# Altium schematic symbol library Freescale Microcontroller 32-Bit ARM.SchLib: 64 symbols (part 6 of 7)
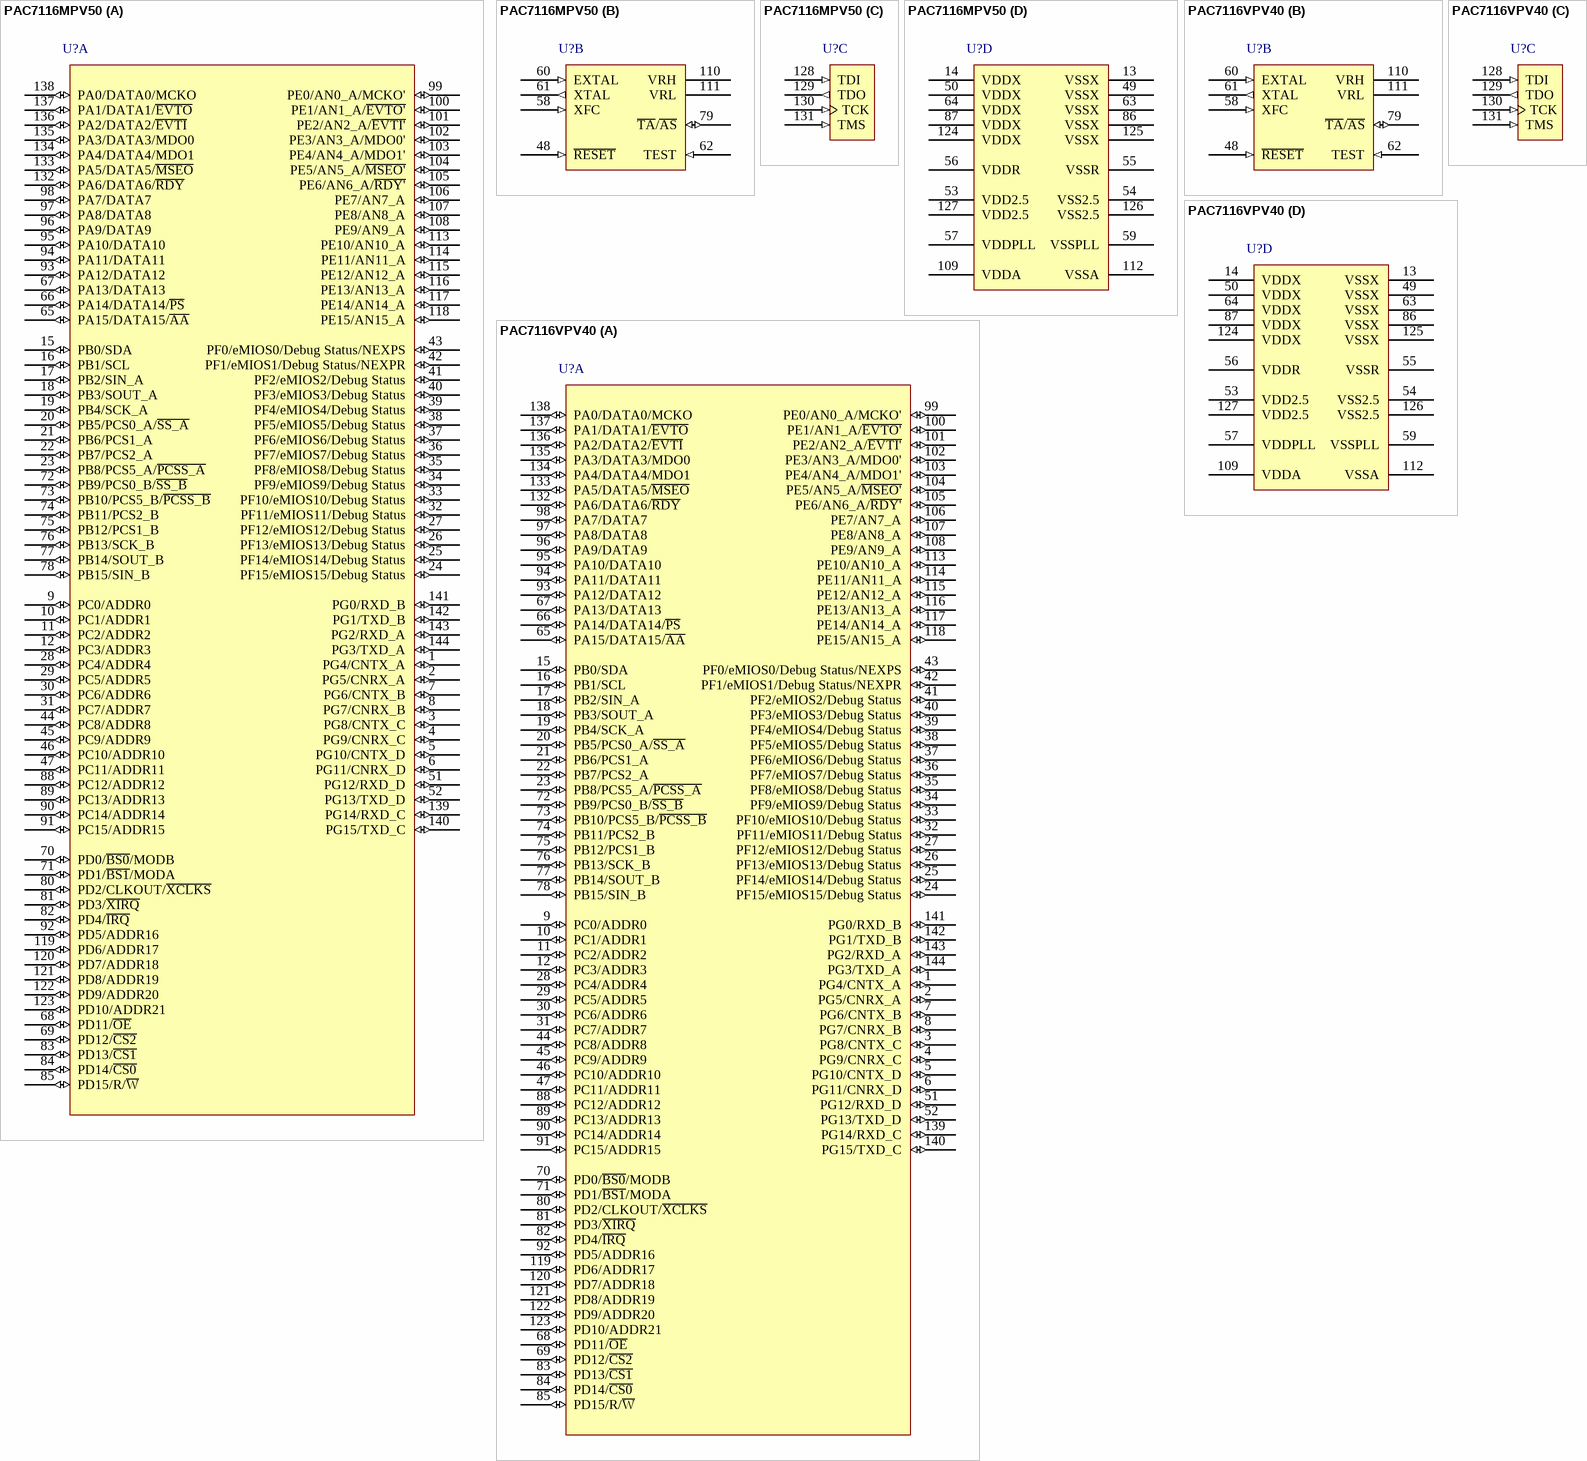
[diagram p43: symbols PAC7116MPV50 to PAC7116VPV40]

## PAC7116MPV50
designator U?
32-Bit ARM7TDMI-S RISC Core, 1MB Program Flash EEPROM, 48KB RAM, 144-Pin LQFP; FunctionAvailability: AS & PD2 functions and Debug Status port not available on mask set L49P devices.; Published: 16-Oct-2006; DatasheetVersion: rev1.2, Feb-2006; PackageVersion: revF, May-2005; PackageReference: 918-03; Publisher: Altium Limited; PackageDescription: 144-Pin Low Profile Quad Flat Pack 0.5 mm Pitch (918-03); ComponentLink1Description: Manufacturer Link; ComponentLink1URL: http://www.freescale.com/webapp/sps/site/taxonomy.jsp?nodeId=0162468rH311432451; ComponentLink2Description: Datasheet; ComponentLink2URL: http://www.freescale.com/files/32bit/doc/data_sheet/MAC7100EC.pdf; ComponentLink3Description: Packaging Specification; ComponentLink3URL: http://www.freescale.com/files/shared/doc/package_info/98ASS23177W.pdf
footprint 918-03_N (Thin QFP, 144-Leads, Body 20x20mm, Pitch 0.5mm, IPC Medium Density)
footprint 918-03_L (Thin QFP, 144-Leads, Body 20x20mm, Pitch 0.5mm, IPC High Density)
footprint 918-03_M (Thin QFP, 144-Leads, Body 20x20mm, Pitch 0.5mm, IPC Low Density)
part A pins: 1 PG4/CNTX_A (io), 2 PG5/CNRX_A (io), 3 PG8/CNTX_C (io), 4 PG9/CNRX_C (io), 5 PG10/CNTX_D (io), 6 PG11/CNRX_D (io), 7 PG6/CNTX_B (io), 8 PG7/CNRX_B (io), 9 PC0/ADDR0 (io), 10 PC1/ADDR1 (io), 11 PC2/ADDR2 (io), 12 PC3/ADDR3 (io), 15 PB0/SDA (io), 16 PB1/SCL (io), 17 PB2/SIN_A (io), 18 PB3/SOUT_A (io), 19 PB4/SCK_A (io), 20 PB5/PCS0_A/~{SS_A} (io), 21 PB6/PCS1_A (io), 22 PB7/PCS2_A (io), 23 PB8/PCS5_A/~{PCSS_A} (io), 24 PF15/eMIOS15/Debug Status (io), 25 PF14/eMIOS14/Debug Status (io), 26 PF13/eMIOS13/Debug Status (io), 27 PF12/eMIOS12/Debug Status (io), 28 PC4/ADDR4 (io), 29 PC5/ADDR5 (io), 30 PC6/ADDR6 (io), 31 PC7/ADDR7 (io), 32 PF11/eMIOS11/Debug Status (io), 33 PF10/eMIOS10/Debug Status (io), 34 PF9/eMIOS9/Debug Status (io), 35 PF8/eMIOS8/Debug Status (io), 36 PF7/eMIOS7/Debug Status (io), 37 PF6/eMIOS6/Debug Status (io), 38 PF5/eMIOS5/Debug Status (io), 39 PF4/eMIOS4/Debug Status (io), 40 PF3/eMIOS3/Debug Status (io), 41 PF2/eMIOS2/Debug Status (io), 42 PF1/eMIOS1/Debug Status/NEXPR (io), 43 PF0/eMIOS0/Debug Status/NEXPS (io), 44 PC8/ADDR8 (io), 45 PC9/ADDR9 (io), 46 PC10/ADDR10 (io), 47 PC11/ADDR11 (io), 51 PG12/RXD_D (io), 52 PG13/TXD_D (io), 65 PA15/DATA15/~{AA} (io), 66 PA14/DATA14/~{PS} (io), 67 PA13/DATA13 (io), 68 PD11/~{OE} (io), 69 PD12/~{CS2} (io), 70 PD0/~{BS0}/MODB (io), 71 PD1/~{BS1}/MODA (io), 72 PB9/PCS0_B/~{SS_B} (io), 73 PB10/PCS5_B/~{PCSS_B} (io), 74 PB11/PCS2_B (io), 75 PB12/PCS1_B (io), 76 PB13/SCK_B (io), 77 PB14/SOUT_B (io), 78 PB15/SIN_B (io), 80 PD2/CLKOUT/~{XCLKS} (io), 81 PD3/~{XIRQ} (io), 82 PD4/~{IRQ} (io), 83 PD13/~{CS1} (io), 84 PD14/~{CS0} (io), 85 PD15/R/~{W} (io), 88 PC12/ADDR12 (io), 89 PC13/ADDR13 (io), 90 PC14/ADDR14 (io), 91 PC15/ADDR15 (io), 92 PD5/ADDR16 (io), 93 PA12/DATA12 (io), 94 PA11/DATA11 (io), 95 PA10/DATA10 (io), 96 PA9/DATA9 (io), 97 PA8/DATA8 (io), 98 PA7/DATA7 (io), 99 PE0/AN0_A/MCKO' (io), 100 PE1/AN1_A/~{EVTO'} (io), 101 PE2/AN2_A/~{EVTI'} (io), 102 PE3/AN3_A/MDO0' (io), 103 PE4/AN4_A/MDO1' (io), 104 PE5/AN5_A/~{MSEO'} (io), 105 PE6/AN6_A/~{RDY'} (io), 106 PE7/AN7_A (io), 107 PE8/AN8_A (io), 108 PE9/AN9_A (io), 113 PE10/AN10_A (io), 114 PE11/AN11_A (io), 115 PE12/AN12_A (io), 116 PE13/AN13_A (io), 117 PE14/AN14_A (io), 118 PE15/AN15_A (io), 119 PD6/ADDR17 (io), 120 PD7/ADDR18 (io), 121 PD8/ADDR19 (io), 122 PD9/ADDR20 (io), 123 PD10/ADDR21 (io), 132 PA6/DATA6/~{RDY} (io), 133 PA5/DATA5/~{MSEO} (io), 134 PA4/DATA4/MDO1 (io), 135 PA3/DATA3/MDO0 (io), 136 PA2/DATA2/~{EVTI} (io), 137 PA1/DATA1/~{EVTO} (io), 138 PA0/DATA0/MCKO (io), 139 PG14/RXD_C (io), 140 PG15/TXD_C (io), 141 PG0/RXD_B (io), 142 PG1/TXD_B (io), 143 PG2/RXD_A (io), 144 PG3/TXD_A (io)
part B pins: 48 ~{RESET} (in), 58 XFC (in), 60 EXTAL (in), 61 XTAL (out), 62 TEST (in), 79 ~{TA}/~{AS} (io), 110 VRH (power), 111 VRL (power)
part C pins: 128 TDI (in), 129 TDO (out), 130 TCK (in), 131 TMS (in)
part D pins: 13 VSSX (power), 14 VDDX (power), 49 VSSX (power), 50 VDDX (power), 53 VDD2.5 (power), 54 VSS2.5 (power), 55 VSSR (power), 56 VDDR (power), 57 VDDPLL (power), 59 VSSPLL (power), 63 VSSX (power), 64 VDDX (power), 86 VSSX (power), 87 VDDX (power), 109 VDDA (power), 112 VSSA (power), 124 VDDX (power), 125 VSSX (power), 126 VSS2.5 (power), 127 VDD2.5 (power)

## PAC7116VPV40
designator U?
32-Bit ARM7TDMI-S RISC Core, 1MB Program Flash EEPROM, 48KB RAM, 144-Pin LQFP; FunctionAvailability: AS & PD2 functions and Debug Status port not available on mask set L49P devices.; Published: 16-Oct-2006; DatasheetVersion: rev1.2, Feb-2006; PackageVersion: revF, May-2005; PackageReference: 918-03; Publisher: Altium Limited; PackageDescription: 144-Pin Low Profile Quad Flat Pack 0.5 mm Pitch (918-03); ComponentLink1Description: Manufacturer Link; ComponentLink1URL: http://www.freescale.com/webapp/sps/site/taxonomy.jsp?nodeId=0162468rH311432451; ComponentLink2Description: Datasheet; ComponentLink2URL: http://www.freescale.com/files/32bit/doc/data_sheet/MAC7100EC.pdf; ComponentLink3Description: Packaging Specification; ComponentLink3URL: http://www.freescale.com/files/shared/doc/package_info/98ASS23177W.pdf
footprint 918-03_N (Thin QFP, 144-Leads, Body 20x20mm, Pitch 0.5mm, IPC Medium Density)
footprint 918-03_L (Thin QFP, 144-Leads, Body 20x20mm, Pitch 0.5mm, IPC High Density)
footprint 918-03_M (Thin QFP, 144-Leads, Body 20x20mm, Pitch 0.5mm, IPC Low Density)
part A pins: 1 PG4/CNTX_A (io), 2 PG5/CNRX_A (io), 3 PG8/CNTX_C (io), 4 PG9/CNRX_C (io), 5 PG10/CNTX_D (io), 6 PG11/CNRX_D (io), 7 PG6/CNTX_B (io), 8 PG7/CNRX_B (io), 9 PC0/ADDR0 (io), 10 PC1/ADDR1 (io), 11 PC2/ADDR2 (io), 12 PC3/ADDR3 (io), 15 PB0/SDA (io), 16 PB1/SCL (io), 17 PB2/SIN_A (io), 18 PB3/SOUT_A (io), 19 PB4/SCK_A (io), 20 PB5/PCS0_A/~{SS_A} (io), 21 PB6/PCS1_A (io), 22 PB7/PCS2_A (io), 23 PB8/PCS5_A/~{PCSS_A} (io), 24 PF15/eMIOS15/Debug Status (io), 25 PF14/eMIOS14/Debug Status (io), 26 PF13/eMIOS13/Debug Status (io), 27 PF12/eMIOS12/Debug Status (io), 28 PC4/ADDR4 (io), 29 PC5/ADDR5 (io), 30 PC6/ADDR6 (io), 31 PC7/ADDR7 (io), 32 PF11/eMIOS11/Debug Status (io), 33 PF10/eMIOS10/Debug Status (io), 34 PF9/eMIOS9/Debug Status (io), 35 PF8/eMIOS8/Debug Status (io), 36 PF7/eMIOS7/Debug Status (io), 37 PF6/eMIOS6/Debug Status (io), 38 PF5/eMIOS5/Debug Status (io), 39 PF4/eMIOS4/Debug Status (io), 40 PF3/eMIOS3/Debug Status (io), 41 PF2/eMIOS2/Debug Status (io), 42 PF1/eMIOS1/Debug Status/NEXPR (io), 43 PF0/eMIOS0/Debug Status/NEXPS (io), 44 PC8/ADDR8 (io), 45 PC9/ADDR9 (io), 46 PC10/ADDR10 (io), 47 PC11/ADDR11 (io), 51 PG12/RXD_D (io), 52 PG13/TXD_D (io), 65 PA15/DATA15/~{AA} (io), 66 PA14/DATA14/~{PS} (io), 67 PA13/DATA13 (io), 68 PD11/~{OE} (io), 69 PD12/~{CS2} (io), 70 PD0/~{BS0}/MODB (io), 71 PD1/~{BS1}/MODA (io), 72 PB9/PCS0_B/~{SS_B} (io), 73 PB10/PCS5_B/~{PCSS_B} (io), 74 PB11/PCS2_B (io), 75 PB12/PCS1_B (io), 76 PB13/SCK_B (io), 77 PB14/SOUT_B (io), 78 PB15/SIN_B (io), 80 PD2/CLKOUT/~{XCLKS} (io), 81 PD3/~{XIRQ} (io), 82 PD4/~{IRQ} (io), 83 PD13/~{CS1} (io), 84 PD14/~{CS0} (io), 85 PD15/R/~{W} (io), 88 PC12/ADDR12 (io), 89 PC13/ADDR13 (io), 90 PC14/ADDR14 (io), 91 PC15/ADDR15 (io), 92 PD5/ADDR16 (io), 93 PA12/DATA12 (io), 94 PA11/DATA11 (io), 95 PA10/DATA10 (io), 96 PA9/DATA9 (io), 97 PA8/DATA8 (io), 98 PA7/DATA7 (io), 99 PE0/AN0_A/MCKO' (io), 100 PE1/AN1_A/~{EVTO'} (io), 101 PE2/AN2_A/~{EVTI'} (io), 102 PE3/AN3_A/MDO0' (io), 103 PE4/AN4_A/MDO1' (io), 104 PE5/AN5_A/~{MSEO'} (io), 105 PE6/AN6_A/~{RDY'} (io), 106 PE7/AN7_A (io), 107 PE8/AN8_A (io), 108 PE9/AN9_A (io), 113 PE10/AN10_A (io), 114 PE11/AN11_A (io), 115 PE12/AN12_A (io), 116 PE13/AN13_A (io), 117 PE14/AN14_A (io), 118 PE15/AN15_A (io), 119 PD6/ADDR17 (io), 120 PD7/ADDR18 (io), 121 PD8/ADDR19 (io), 122 PD9/ADDR20 (io), 123 PD10/ADDR21 (io), 132 PA6/DATA6/~{RDY} (io), 133 PA5/DATA5/~{MSEO} (io), 134 PA4/DATA4/MDO1 (io), 135 PA3/DATA3/MDO0 (io), 136 PA2/DATA2/~{EVTI} (io), 137 PA1/DATA1/~{EVTO} (io), 138 PA0/DATA0/MCKO (io), 139 PG14/RXD_C (io), 140 PG15/TXD_C (io), 141 PG0/RXD_B (io), 142 PG1/TXD_B (io), 143 PG2/RXD_A (io), 144 PG3/TXD_A (io)
part B pins: 48 ~{RESET} (in), 58 XFC (in), 60 EXTAL (in), 61 XTAL (out), 62 TEST (in), 79 ~{TA}/~{AS} (io), 110 VRH (power), 111 VRL (power)
part C pins: 128 TDI (in), 129 TDO (out), 130 TCK (in), 131 TMS (in)
part D pins: 13 VSSX (power), 14 VDDX (power), 49 VSSX (power), 50 VDDX (power), 53 VDD2.5 (power), 54 VSS2.5 (power), 55 VSSR (power), 56 VDDR (power), 57 VDDPLL (power), 59 VSSPLL (power), 63 VSSX (power), 64 VDDX (power), 86 VSSX (power), 87 VDDX (power), 109 VDDA (power), 112 VSSA (power), 124 VDDX (power), 125 VSSX (power), 126 VSS2.5 (power), 127 VDD2.5 (power)

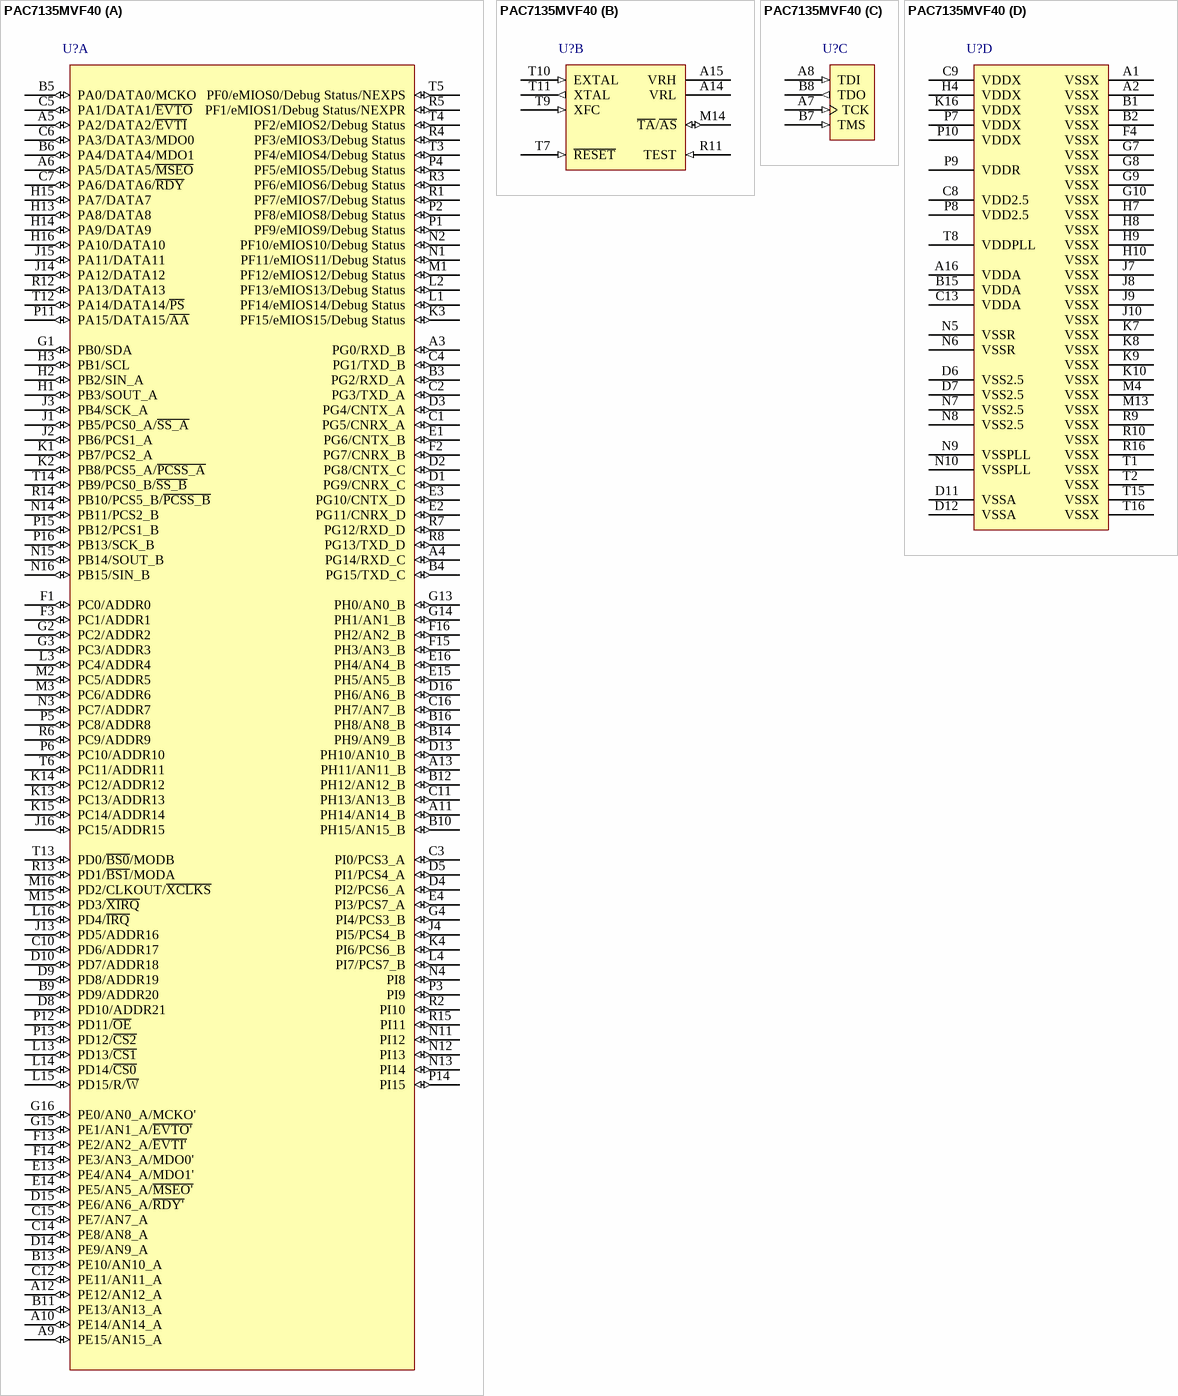
[diagram p31: symbol PAC7135MVF40]

## PAC7135MVF40
designator U?
32-Bit ARM7TDMI-S RISC Core, 768KB Program Flash EEPROM, 40KB RAM, 208-Ball MAP BGA; FunctionAvailability: AS & PD2 functions and Debug Status port not available on mask set L49P devices.; Published: 16-Oct-2006; DatasheetVersion: rev1.2, Feb-2006; PackageVersion: revD, Aug-2005; PackageReference: 1159A-01; Publisher: Altium Limited; PackageDescription: 208-Ball Molded Array Process Ball Grid Array 1 mm Pitch (1159A-01); Code_JEDEC: MO-151-AAF-1; ComponentLink1Description: Manufacturer Link; ComponentLink1URL: http://www.freescale.com/webapp/sps/site/taxonomy.jsp?nodeId=0162468rH311432451; ComponentLink2Description: Datasheet; ComponentLink2URL: http://www.freescale.com/files/32bit/doc/data_sheet/MAC7100EC.pdf; ComponentLink3Description: Packaging Specification; ComponentLink3URL: http://www.freescale.com/files/shared/doc/package_info/98ARS23882W.pdf
footprint 1159A-01 (BGA, 208-Leads, Body 17x17mm, Pitch 1mm)
part A pins: A3 PG0/RXD_B (io), A4 PG14/RXD_C (io), A5 PA2/DATA2/~{EVTI} (io), A6 PA5/DATA5/~{MSEO} (io), A9 PE15/AN15_A (io), A10 PE14/AN14_A (io), A11 PH14/AN14_B (io), A12 PE12/AN12_A (io), A13 PH11/AN11_B (io), B3 PG2/RXD_A (io), B4 PG15/TXD_C (io), B5 PA0/DATA0/MCKO (io), B6 PA4/DATA4/MDO1 (io), B9 PD9/ADDR20 (io), B10 PH15/AN15_B (io), B11 PE13/AN13_A (io), B12 PH12/AN12_B (io), B13 PE10/AN10_A (io), B14 PH9/AN9_B (io), B16 PH8/AN8_B (io), C1 PG5/CNRX_A (io), C2 PG3/TXD_A (io), C3 PI0/PCS3_A (io), C4 PG1/TXD_B (io), C5 PA1/DATA1/~{EVTO} (io), C6 PA3/DATA3/MDO0 (io), C7 PA6/DATA6/~{RDY} (io), C10 PD6/ADDR17 (io), C11 PH13/AN13_B (io), C12 PE11/AN11_A (io), C14 PE8/AN8_A (io), C15 PE7/AN7_A (io), C16 PH7/AN7_B (io), D1 PG9/CNRX_C (io), D2 PG8/CNTX_C (io), D3 PG4/CNTX_A (io), D4 PI2/PCS6_A (io), D5 PI1/PCS4_A (io), D8 PD10/ADDR21 (io), D9 PD8/ADDR19 (io), D10 PD7/ADDR18 (io), D13 PH10/AN10_B (io), D14 PE9/AN9_A (io), D15 PE6/AN6_A/~{RDY'} (io), D16 PH6/AN6_B (io), E1 PG6/CNTX_B (io), E2 PG11/CNRX_D (io), E3 PG10/CNTX_D (io), E4 PI3/PCS7_A (io), E13 PE4/AN4_A/MDO1' (io), E14 PE5/AN5_A/~{MSEO'} (io), E15 PH5/AN5_B (io), E16 PH4/AN4_B (io), F1 PC0/ADDR0 (io), F2 PG7/CNRX_B (io), F3 PC1/ADDR1 (io), F13 PE2/AN2_A/~{EVTI'} (io), F14 PE3/AN3_A/MDO0' (io), F15 PH3/AN3_B (io), F16 PH2/AN2_B (io), G1 PB0/SDA (io), G2 PC2/ADDR2 (io), G3 PC3/ADDR3 (io), G4 PI4/PCS3_B (io), G13 PH0/AN0_B (io), G14 PH1/AN1_B (io), G15 PE1/AN1_A/~{EVTO'} (io), G16 PE0/AN0_A/MCKO' (io), H1 PB3/SOUT_A (io), H2 PB2/SIN_A (io), H3 PB1/SCL (io), H13 PA8/DATA8 (io), H14 PA9/DATA9 (io), H15 PA7/DATA7 (io), H16 PA10/DATA10 (io), J1 PB5/PCS0_A/~{SS_A} (io), J2 PB6/PCS1_A (io), J3 PB4/SCK_A (io), J4 PI5/PCS4_B (io), J13 PD5/ADDR16 (io), J14 PA12/DATA12 (io), J15 PA11/DATA11 (io), J16 PC15/ADDR15 (io), K1 PB7/PCS2_A (io), K2 PB8/PCS5_A/~{PCSS_A} (io), K3 PF15/eMIOS15/Debug Status (io), K4 PI6/PCS6_B (io), K13 PC13/ADDR13 (io), K14 PC12/ADDR12 (io), K15 PC14/ADDR14 (io), L1 PF14/eMIOS14/Debug Status (io), L2 PF13/eMIOS13/Debug Status (io), L3 PC4/ADDR4 (io), L4 PI7/PCS7_B (io), L13 PD13/~{CS1} (io), L14 PD14/~{CS0} (io), L15 PD15/R/~{W} (io), L16 PD4/~{IRQ} (io), M1 PF12/eMIOS12/Debug Status (io), M2 PC5/ADDR5 (io), M3 PC6/ADDR6 (io), M15 PD3/~{XIRQ} (io), M16 PD2/CLKOUT/~{XCLKS} (io), N1 PF11/eMIOS11/Debug Status (io), N2 PF10/eMIOS10/Debug Status (io), N3 PC7/ADDR7 (io), N4 PI8 (io), N11 PI12 (io), N12 PI13 (io), N13 PI14 (io), N14 PB11/PCS2_B (io), N15 PB14/SOUT_B (io), N16 PB15/SIN_B (io), P1 PF9/eMIOS9/Debug Status (io), P2 PF8/eMIOS8/Debug Status (io), P3 PI9 (io), P4 PF5/eMIOS5/Debug Status (io), P5 PC8/ADDR8 (io), P6 PC10/ADDR10 (io), P11 PA15/DATA15/~{AA} (io), P12 PD11/~{OE} (io), P13 PD12/~{CS2} (io), P14 PI15 (io), P15 PB12/PCS1_B (io), P16 PB13/SCK_B (io), R1 PF7/eMIOS7/Debug Status (io), R2 PI10 (io), R3 PF6/eMIOS6/Debug Status (io), R4 PF3/eMIOS3/Debug Status (io), R5 PF1/eMIOS1/Debug Status/NEXPR (io), R6 PC9/ADDR9 (io), R7 PG12/RXD_D (io), R8 PG13/TXD_D (io), R12 PA13/DATA13 (io), R13 PD1/~{BS1}/MODA (io), R14 PB10/PCS5_B/~{PCSS_B} (io), R15 PI11 (io), T3 PF4/eMIOS4/Debug Status (io), T4 PF2/eMIOS2/Debug Status (io), T5 PF0/eMIOS0/Debug Status/NEXPS (io), T6 PC11/ADDR11 (io), T12 PA14/DATA14/~{PS} (io), T13 PD0/~{BS0}/MODB (io), T14 PB9/PCS0_B/~{SS_B} (io)
part B pins: A14 VRL (power), A15 VRH (power), M14 ~{TA}/~{AS} (io), R11 TEST (in), T7 ~{RESET} (in), T9 XFC (in), T10 EXTAL (in), T11 XTAL (out)
part C pins: A7 TCK (in), A8 TDI (in), B7 TMS (in), B8 TDO (out)
part D pins: A1 VSSX (power), A2 VSSX (power), A16 VDDA (power), B1 VSSX (power), B2 VSSX (power), B15 VDDA (power), C8 VDD2.5 (power), C9 VDDX (power), C13 VDDA (power), D6 VSS2.5 (power), D7 VSS2.5 (power), D11 VSSA (power), D12 VSSA (power), F4 VSSX (power), G7 VSSX (power), G8 VSSX (power), G9 VSSX (power), G10 VSSX (power), H4 VDDX (power), H7 VSSX (power), H8 VSSX (power), H9 VSSX (power), H10 VSSX (power), J7 VSSX (power), J8 VSSX (power), J9 VSSX (power), J10 VSSX (power), K7 VSSX (power), K8 VSSX (power), K9 VSSX (power), K10 VSSX (power), K16 VDDX (power), M4 VSSX (power), M13 VSSX (power), N5 VSSR (power), N6 VSSR (power), N7 VSS2.5 (power), N8 VSS2.5 (power), N9 VSSPLL (power), N10 VSSPLL (power), P7 VDDX (power), P8 VDD2.5 (power), P9 VDDR (power), P10 VDDX (power), R9 VSSX (power), R10 VSSX (power), R16 VSSX (power), T1 VSSX (power), T2 VSSX (power), T8 VDDPLL (power), T15 VSSX (power), T16 VSSX (power)

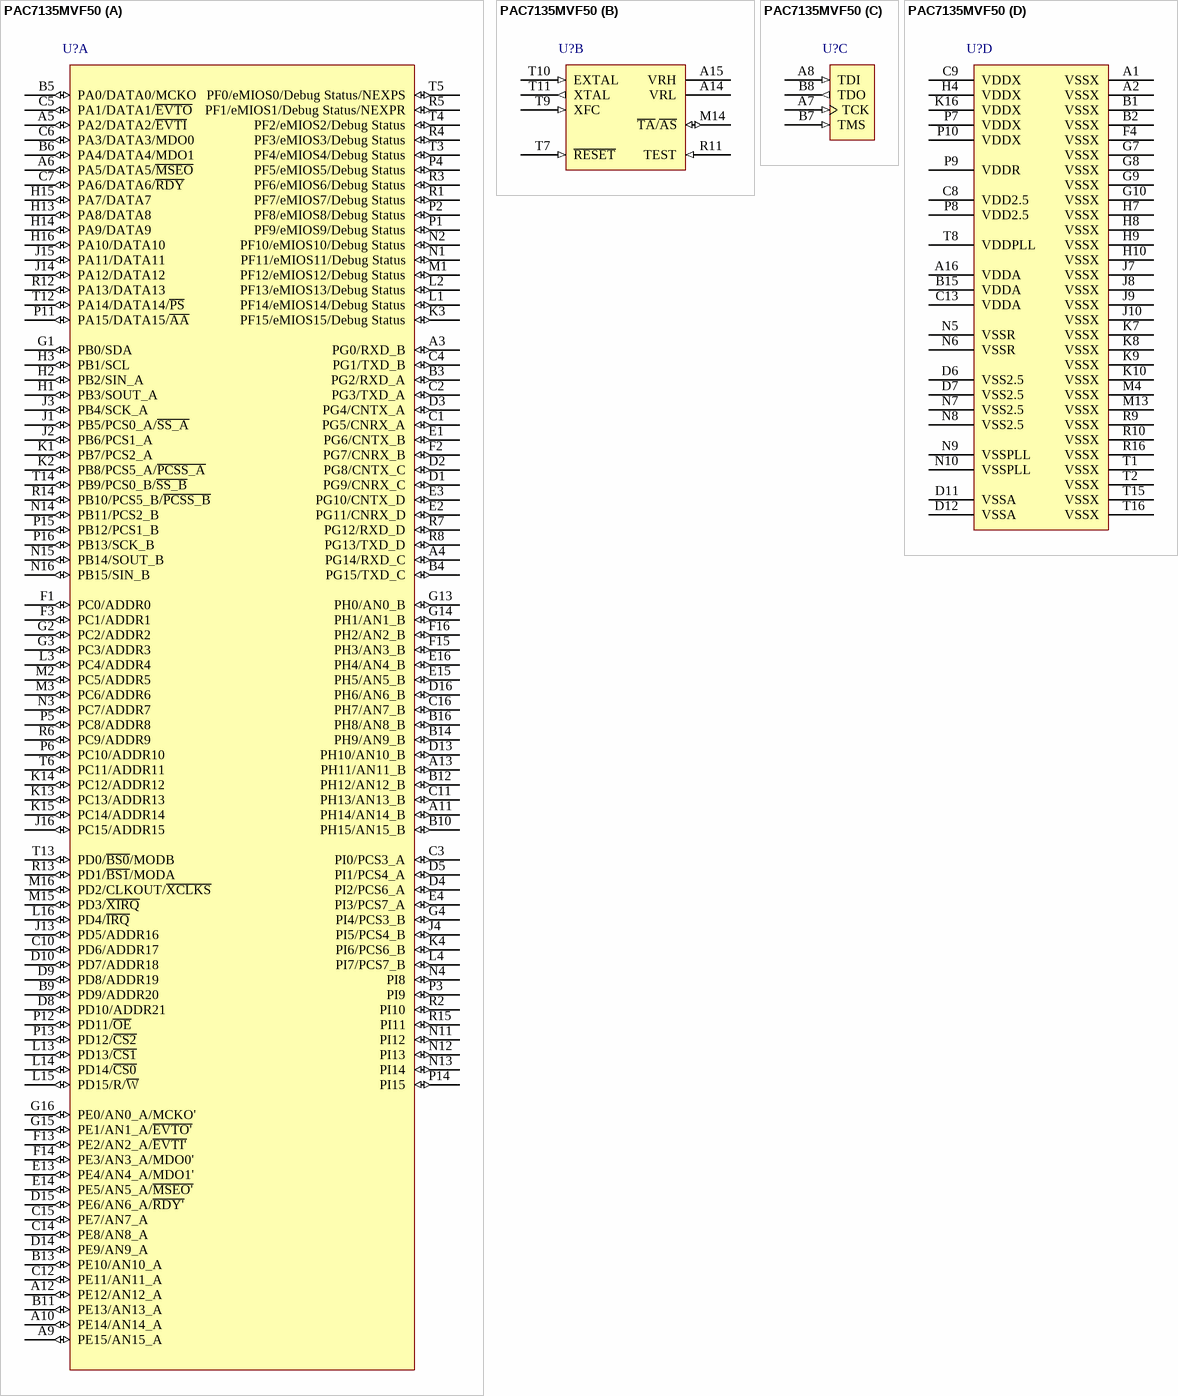
[diagram p32: symbol PAC7135MVF50]

## PAC7135MVF50
designator U?
32-Bit ARM7TDMI-S RISC Core, 768KB Program Flash EEPROM, 40KB RAM, 208-Ball MAP BGA; FunctionAvailability: AS & PD2 functions and Debug Status port not available on mask set L49P devices.; Published: 16-Oct-2006; DatasheetVersion: rev1.2, Feb-2006; PackageVersion: revD, Aug-2005; PackageReference: 1159A-01; Publisher: Altium Limited; PackageDescription: 208-Ball Molded Array Process Ball Grid Array 1 mm Pitch (1159A-01); Code_JEDEC: MO-151-AAF-1; ComponentLink1Description: Manufacturer Link; ComponentLink1URL: http://www.freescale.com/webapp/sps/site/taxonomy.jsp?nodeId=0162468rH311432451; ComponentLink2Description: Datasheet; ComponentLink2URL: http://www.freescale.com/files/32bit/doc/data_sheet/MAC7100EC.pdf; ComponentLink3Description: Packaging Specification; ComponentLink3URL: http://www.freescale.com/files/shared/doc/package_info/98ARS23882W.pdf
footprint 1159A-01 (BGA, 208-Leads, Body 17x17mm, Pitch 1mm)
part A pins: A3 PG0/RXD_B (io), A4 PG14/RXD_C (io), A5 PA2/DATA2/~{EVTI} (io), A6 PA5/DATA5/~{MSEO} (io), A9 PE15/AN15_A (io), A10 PE14/AN14_A (io), A11 PH14/AN14_B (io), A12 PE12/AN12_A (io), A13 PH11/AN11_B (io), B3 PG2/RXD_A (io), B4 PG15/TXD_C (io), B5 PA0/DATA0/MCKO (io), B6 PA4/DATA4/MDO1 (io), B9 PD9/ADDR20 (io), B10 PH15/AN15_B (io), B11 PE13/AN13_A (io), B12 PH12/AN12_B (io), B13 PE10/AN10_A (io), B14 PH9/AN9_B (io), B16 PH8/AN8_B (io), C1 PG5/CNRX_A (io), C2 PG3/TXD_A (io), C3 PI0/PCS3_A (io), C4 PG1/TXD_B (io), C5 PA1/DATA1/~{EVTO} (io), C6 PA3/DATA3/MDO0 (io), C7 PA6/DATA6/~{RDY} (io), C10 PD6/ADDR17 (io), C11 PH13/AN13_B (io), C12 PE11/AN11_A (io), C14 PE8/AN8_A (io), C15 PE7/AN7_A (io), C16 PH7/AN7_B (io), D1 PG9/CNRX_C (io), D2 PG8/CNTX_C (io), D3 PG4/CNTX_A (io), D4 PI2/PCS6_A (io), D5 PI1/PCS4_A (io), D8 PD10/ADDR21 (io), D9 PD8/ADDR19 (io), D10 PD7/ADDR18 (io), D13 PH10/AN10_B (io), D14 PE9/AN9_A (io), D15 PE6/AN6_A/~{RDY'} (io), D16 PH6/AN6_B (io), E1 PG6/CNTX_B (io), E2 PG11/CNRX_D (io), E3 PG10/CNTX_D (io), E4 PI3/PCS7_A (io), E13 PE4/AN4_A/MDO1' (io), E14 PE5/AN5_A/~{MSEO'} (io), E15 PH5/AN5_B (io), E16 PH4/AN4_B (io), F1 PC0/ADDR0 (io), F2 PG7/CNRX_B (io), F3 PC1/ADDR1 (io), F13 PE2/AN2_A/~{EVTI'} (io), F14 PE3/AN3_A/MDO0' (io), F15 PH3/AN3_B (io), F16 PH2/AN2_B (io), G1 PB0/SDA (io), G2 PC2/ADDR2 (io), G3 PC3/ADDR3 (io), G4 PI4/PCS3_B (io), G13 PH0/AN0_B (io), G14 PH1/AN1_B (io), G15 PE1/AN1_A/~{EVTO'} (io), G16 PE0/AN0_A/MCKO' (io), H1 PB3/SOUT_A (io), H2 PB2/SIN_A (io), H3 PB1/SCL (io), H13 PA8/DATA8 (io), H14 PA9/DATA9 (io), H15 PA7/DATA7 (io), H16 PA10/DATA10 (io), J1 PB5/PCS0_A/~{SS_A} (io), J2 PB6/PCS1_A (io), J3 PB4/SCK_A (io), J4 PI5/PCS4_B (io), J13 PD5/ADDR16 (io), J14 PA12/DATA12 (io), J15 PA11/DATA11 (io), J16 PC15/ADDR15 (io), K1 PB7/PCS2_A (io), K2 PB8/PCS5_A/~{PCSS_A} (io), K3 PF15/eMIOS15/Debug Status (io), K4 PI6/PCS6_B (io), K13 PC13/ADDR13 (io), K14 PC12/ADDR12 (io), K15 PC14/ADDR14 (io), L1 PF14/eMIOS14/Debug Status (io), L2 PF13/eMIOS13/Debug Status (io), L3 PC4/ADDR4 (io), L4 PI7/PCS7_B (io), L13 PD13/~{CS1} (io), L14 PD14/~{CS0} (io), L15 PD15/R/~{W} (io), L16 PD4/~{IRQ} (io), M1 PF12/eMIOS12/Debug Status (io), M2 PC5/ADDR5 (io), M3 PC6/ADDR6 (io), M15 PD3/~{XIRQ} (io), M16 PD2/CLKOUT/~{XCLKS} (io), N1 PF11/eMIOS11/Debug Status (io), N2 PF10/eMIOS10/Debug Status (io), N3 PC7/ADDR7 (io), N4 PI8 (io), N11 PI12 (io), N12 PI13 (io), N13 PI14 (io), N14 PB11/PCS2_B (io), N15 PB14/SOUT_B (io), N16 PB15/SIN_B (io), P1 PF9/eMIOS9/Debug Status (io), P2 PF8/eMIOS8/Debug Status (io), P3 PI9 (io), P4 PF5/eMIOS5/Debug Status (io), P5 PC8/ADDR8 (io), P6 PC10/ADDR10 (io), P11 PA15/DATA15/~{AA} (io), P12 PD11/~{OE} (io), P13 PD12/~{CS2} (io), P14 PI15 (io), P15 PB12/PCS1_B (io), P16 PB13/SCK_B (io), R1 PF7/eMIOS7/Debug Status (io), R2 PI10 (io), R3 PF6/eMIOS6/Debug Status (io), R4 PF3/eMIOS3/Debug Status (io), R5 PF1/eMIOS1/Debug Status/NEXPR (io), R6 PC9/ADDR9 (io), R7 PG12/RXD_D (io), R8 PG13/TXD_D (io), R12 PA13/DATA13 (io), R13 PD1/~{BS1}/MODA (io), R14 PB10/PCS5_B/~{PCSS_B} (io), R15 PI11 (io), T3 PF4/eMIOS4/Debug Status (io), T4 PF2/eMIOS2/Debug Status (io), T5 PF0/eMIOS0/Debug Status/NEXPS (io), T6 PC11/ADDR11 (io), T12 PA14/DATA14/~{PS} (io), T13 PD0/~{BS0}/MODB (io), T14 PB9/PCS0_B/~{SS_B} (io)
part B pins: A14 VRL (power), A15 VRH (power), M14 ~{TA}/~{AS} (io), R11 TEST (in), T7 ~{RESET} (in), T9 XFC (in), T10 EXTAL (in), T11 XTAL (out)
part C pins: A7 TCK (in), A8 TDI (in), B7 TMS (in), B8 TDO (out)
part D pins: A1 VSSX (power), A2 VSSX (power), A16 VDDA (power), B1 VSSX (power), B2 VSSX (power), B15 VDDA (power), C8 VDD2.5 (power), C9 VDDX (power), C13 VDDA (power), D6 VSS2.5 (power), D7 VSS2.5 (power), D11 VSSA (power), D12 VSSA (power), F4 VSSX (power), G7 VSSX (power), G8 VSSX (power), G9 VSSX (power), G10 VSSX (power), H4 VDDX (power), H7 VSSX (power), H8 VSSX (power), H9 VSSX (power), H10 VSSX (power), J7 VSSX (power), J8 VSSX (power), J9 VSSX (power), J10 VSSX (power), K7 VSSX (power), K8 VSSX (power), K9 VSSX (power), K10 VSSX (power), K16 VDDX (power), M4 VSSX (power), M13 VSSX (power), N5 VSSR (power), N6 VSSR (power), N7 VSS2.5 (power), N8 VSS2.5 (power), N9 VSSPLL (power), N10 VSSPLL (power), P7 VDDX (power), P8 VDD2.5 (power), P9 VDDR (power), P10 VDDX (power), R9 VSSX (power), R10 VSSX (power), R16 VSSX (power), T1 VSSX (power), T2 VSSX (power), T8 VDDPLL (power), T15 VSSX (power), T16 VSSX (power)

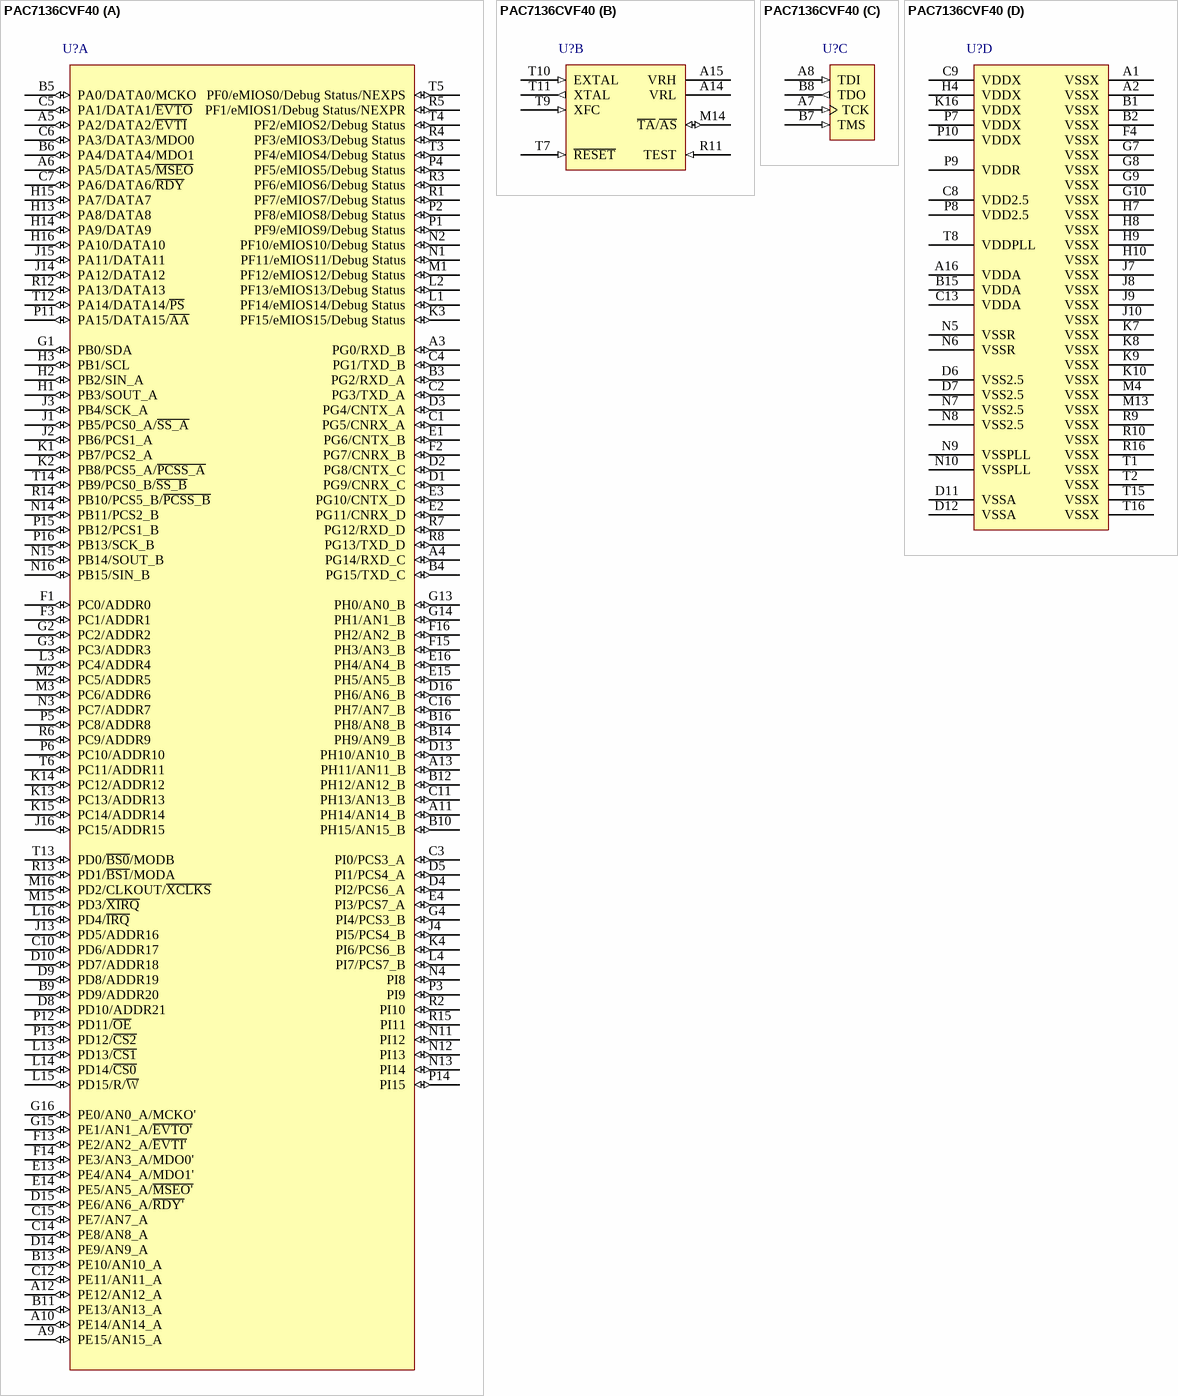
[diagram p33: symbol PAC7136CVF40]

## PAC7136CVF40
designator U?
32-Bit ARM7TDMI-S RISC Core, 1MB Program Flash EEPROM, 48KB RAM, 208-Ball MAP BGA; FunctionAvailability: AS & PD2 functions and Debug Status port not available on mask set L49P devices.; Published: 16-Oct-2006; DatasheetVersion: rev1.2, Feb-2006; PackageVersion: revD, Aug-2005; PackageReference: 1159A-01; Publisher: Altium Limited; PackageDescription: 208-Ball Molded Array Process Ball Grid Array 1 mm Pitch (1159A-01); Code_JEDEC: MO-151-AAF-1; ComponentLink1Description: Manufacturer Link; ComponentLink1URL: http://www.freescale.com/webapp/sps/site/taxonomy.jsp?nodeId=0162468rH311432451; ComponentLink2Description: Datasheet; ComponentLink2URL: http://www.freescale.com/files/32bit/doc/data_sheet/MAC7100EC.pdf; ComponentLink3Description: Packaging Specification; ComponentLink3URL: http://www.freescale.com/files/shared/doc/package_info/98ARS23882W.pdf
footprint 1159A-01 (BGA, 208-Leads, Body 17x17mm, Pitch 1mm)
part A pins: A3 PG0/RXD_B (io), A4 PG14/RXD_C (io), A5 PA2/DATA2/~{EVTI} (io), A6 PA5/DATA5/~{MSEO} (io), A9 PE15/AN15_A (io), A10 PE14/AN14_A (io), A11 PH14/AN14_B (io), A12 PE12/AN12_A (io), A13 PH11/AN11_B (io), B3 PG2/RXD_A (io), B4 PG15/TXD_C (io), B5 PA0/DATA0/MCKO (io), B6 PA4/DATA4/MDO1 (io), B9 PD9/ADDR20 (io), B10 PH15/AN15_B (io), B11 PE13/AN13_A (io), B12 PH12/AN12_B (io), B13 PE10/AN10_A (io), B14 PH9/AN9_B (io), B16 PH8/AN8_B (io), C1 PG5/CNRX_A (io), C2 PG3/TXD_A (io), C3 PI0/PCS3_A (io), C4 PG1/TXD_B (io), C5 PA1/DATA1/~{EVTO} (io), C6 PA3/DATA3/MDO0 (io), C7 PA6/DATA6/~{RDY} (io), C10 PD6/ADDR17 (io), C11 PH13/AN13_B (io), C12 PE11/AN11_A (io), C14 PE8/AN8_A (io), C15 PE7/AN7_A (io), C16 PH7/AN7_B (io), D1 PG9/CNRX_C (io), D2 PG8/CNTX_C (io), D3 PG4/CNTX_A (io), D4 PI2/PCS6_A (io), D5 PI1/PCS4_A (io), D8 PD10/ADDR21 (io), D9 PD8/ADDR19 (io), D10 PD7/ADDR18 (io), D13 PH10/AN10_B (io), D14 PE9/AN9_A (io), D15 PE6/AN6_A/~{RDY'} (io), D16 PH6/AN6_B (io), E1 PG6/CNTX_B (io), E2 PG11/CNRX_D (io), E3 PG10/CNTX_D (io), E4 PI3/PCS7_A (io), E13 PE4/AN4_A/MDO1' (io), E14 PE5/AN5_A/~{MSEO'} (io), E15 PH5/AN5_B (io), E16 PH4/AN4_B (io), F1 PC0/ADDR0 (io), F2 PG7/CNRX_B (io), F3 PC1/ADDR1 (io), F13 PE2/AN2_A/~{EVTI'} (io), F14 PE3/AN3_A/MDO0' (io), F15 PH3/AN3_B (io), F16 PH2/AN2_B (io), G1 PB0/SDA (io), G2 PC2/ADDR2 (io), G3 PC3/ADDR3 (io), G4 PI4/PCS3_B (io), G13 PH0/AN0_B (io), G14 PH1/AN1_B (io), G15 PE1/AN1_A/~{EVTO'} (io), G16 PE0/AN0_A/MCKO' (io), H1 PB3/SOUT_A (io), H2 PB2/SIN_A (io), H3 PB1/SCL (io), H13 PA8/DATA8 (io), H14 PA9/DATA9 (io), H15 PA7/DATA7 (io), H16 PA10/DATA10 (io), J1 PB5/PCS0_A/~{SS_A} (io), J2 PB6/PCS1_A (io), J3 PB4/SCK_A (io), J4 PI5/PCS4_B (io), J13 PD5/ADDR16 (io), J14 PA12/DATA12 (io), J15 PA11/DATA11 (io), J16 PC15/ADDR15 (io), K1 PB7/PCS2_A (io), K2 PB8/PCS5_A/~{PCSS_A} (io), K3 PF15/eMIOS15/Debug Status (io), K4 PI6/PCS6_B (io), K13 PC13/ADDR13 (io), K14 PC12/ADDR12 (io), K15 PC14/ADDR14 (io), L1 PF14/eMIOS14/Debug Status (io), L2 PF13/eMIOS13/Debug Status (io), L3 PC4/ADDR4 (io), L4 PI7/PCS7_B (io), L13 PD13/~{CS1} (io), L14 PD14/~{CS0} (io), L15 PD15/R/~{W} (io), L16 PD4/~{IRQ} (io), M1 PF12/eMIOS12/Debug Status (io), M2 PC5/ADDR5 (io), M3 PC6/ADDR6 (io), M15 PD3/~{XIRQ} (io), M16 PD2/CLKOUT/~{XCLKS} (io), N1 PF11/eMIOS11/Debug Status (io), N2 PF10/eMIOS10/Debug Status (io), N3 PC7/ADDR7 (io), N4 PI8 (io), N11 PI12 (io), N12 PI13 (io), N13 PI14 (io), N14 PB11/PCS2_B (io), N15 PB14/SOUT_B (io), N16 PB15/SIN_B (io), P1 PF9/eMIOS9/Debug Status (io), P2 PF8/eMIOS8/Debug Status (io), P3 PI9 (io), P4 PF5/eMIOS5/Debug Status (io), P5 PC8/ADDR8 (io), P6 PC10/ADDR10 (io), P11 PA15/DATA15/~{AA} (io), P12 PD11/~{OE} (io), P13 PD12/~{CS2} (io), P14 PI15 (io), P15 PB12/PCS1_B (io), P16 PB13/SCK_B (io), R1 PF7/eMIOS7/Debug Status (io), R2 PI10 (io), R3 PF6/eMIOS6/Debug Status (io), R4 PF3/eMIOS3/Debug Status (io), R5 PF1/eMIOS1/Debug Status/NEXPR (io), R6 PC9/ADDR9 (io), R7 PG12/RXD_D (io), R8 PG13/TXD_D (io), R12 PA13/DATA13 (io), R13 PD1/~{BS1}/MODA (io), R14 PB10/PCS5_B/~{PCSS_B} (io), R15 PI11 (io), T3 PF4/eMIOS4/Debug Status (io), T4 PF2/eMIOS2/Debug Status (io), T5 PF0/eMIOS0/Debug Status/NEXPS (io), T6 PC11/ADDR11 (io), T12 PA14/DATA14/~{PS} (io), T13 PD0/~{BS0}/MODB (io), T14 PB9/PCS0_B/~{SS_B} (io)
part B pins: A14 VRL (power), A15 VRH (power), M14 ~{TA}/~{AS} (io), R11 TEST (in), T7 ~{RESET} (in), T9 XFC (in), T10 EXTAL (in), T11 XTAL (out)
part C pins: A7 TCK (in), A8 TDI (in), B7 TMS (in), B8 TDO (out)
part D pins: A1 VSSX (power), A2 VSSX (power), A16 VDDA (power), B1 VSSX (power), B2 VSSX (power), B15 VDDA (power), C8 VDD2.5 (power), C9 VDDX (power), C13 VDDA (power), D6 VSS2.5 (power), D7 VSS2.5 (power), D11 VSSA (power), D12 VSSA (power), F4 VSSX (power), G7 VSSX (power), G8 VSSX (power), G9 VSSX (power), G10 VSSX (power), H4 VDDX (power), H7 VSSX (power), H8 VSSX (power), H9 VSSX (power), H10 VSSX (power), J7 VSSX (power), J8 VSSX (power), J9 VSSX (power), J10 VSSX (power), K7 VSSX (power), K8 VSSX (power), K9 VSSX (power), K10 VSSX (power), K16 VDDX (power), M4 VSSX (power), M13 VSSX (power), N5 VSSR (power), N6 VSSR (power), N7 VSS2.5 (power), N8 VSS2.5 (power), N9 VSSPLL (power), N10 VSSPLL (power), P7 VDDX (power), P8 VDD2.5 (power), P9 VDDR (power), P10 VDDX (power), R9 VSSX (power), R10 VSSX (power), R16 VSSX (power), T1 VSSX (power), T2 VSSX (power), T8 VDDPLL (power), T15 VSSX (power), T16 VSSX (power)

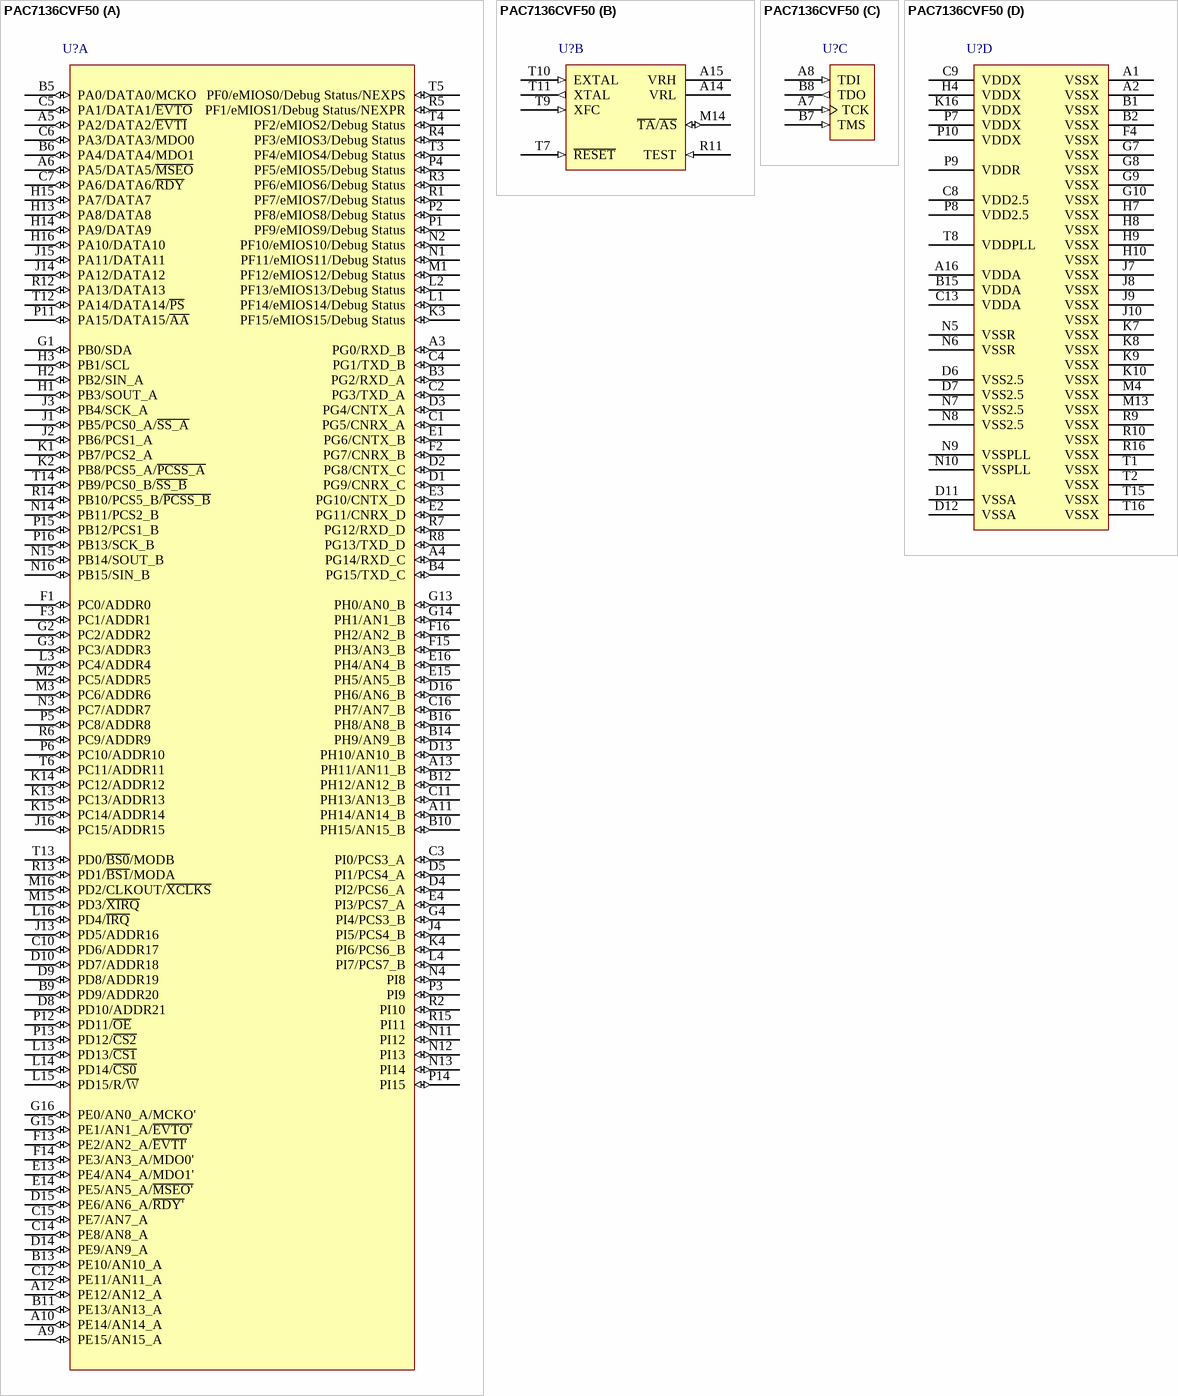
[diagram p34: symbol PAC7136CVF50]

## PAC7136CVF50
designator U?
32-Bit ARM7TDMI-S RISC Core, 1MB Program Flash EEPROM, 48KB RAM, 208-Ball MAP BGA; FunctionAvailability: AS & PD2 functions and Debug Status port not available on mask set L49P devices.; Published: 16-Oct-2006; DatasheetVersion: rev1.2, Feb-2006; PackageVersion: revD, Aug-2005; PackageReference: 1159A-01; Publisher: Altium Limited; PackageDescription: 208-Ball Molded Array Process Ball Grid Array 1 mm Pitch (1159A-01); Code_JEDEC: MO-151-AAF-1; ComponentLink1Description: Manufacturer Link; ComponentLink1URL: http://www.freescale.com/webapp/sps/site/taxonomy.jsp?nodeId=0162468rH311432451; ComponentLink2Description: Datasheet; ComponentLink2URL: http://www.freescale.com/files/32bit/doc/data_sheet/MAC7100EC.pdf; ComponentLink3Description: Packaging Specification; ComponentLink3URL: http://www.freescale.com/files/shared/doc/package_info/98ARS23882W.pdf
footprint 1159A-01 (BGA, 208-Leads, Body 17x17mm, Pitch 1mm)
part A pins: A3 PG0/RXD_B (io), A4 PG14/RXD_C (io), A5 PA2/DATA2/~{EVTI} (io), A6 PA5/DATA5/~{MSEO} (io), A9 PE15/AN15_A (io), A10 PE14/AN14_A (io), A11 PH14/AN14_B (io), A12 PE12/AN12_A (io), A13 PH11/AN11_B (io), B3 PG2/RXD_A (io), B4 PG15/TXD_C (io), B5 PA0/DATA0/MCKO (io), B6 PA4/DATA4/MDO1 (io), B9 PD9/ADDR20 (io), B10 PH15/AN15_B (io), B11 PE13/AN13_A (io), B12 PH12/AN12_B (io), B13 PE10/AN10_A (io), B14 PH9/AN9_B (io), B16 PH8/AN8_B (io), C1 PG5/CNRX_A (io), C2 PG3/TXD_A (io), C3 PI0/PCS3_A (io), C4 PG1/TXD_B (io), C5 PA1/DATA1/~{EVTO} (io), C6 PA3/DATA3/MDO0 (io), C7 PA6/DATA6/~{RDY} (io), C10 PD6/ADDR17 (io), C11 PH13/AN13_B (io), C12 PE11/AN11_A (io), C14 PE8/AN8_A (io), C15 PE7/AN7_A (io), C16 PH7/AN7_B (io), D1 PG9/CNRX_C (io), D2 PG8/CNTX_C (io), D3 PG4/CNTX_A (io), D4 PI2/PCS6_A (io), D5 PI1/PCS4_A (io), D8 PD10/ADDR21 (io), D9 PD8/ADDR19 (io), D10 PD7/ADDR18 (io), D13 PH10/AN10_B (io), D14 PE9/AN9_A (io), D15 PE6/AN6_A/~{RDY'} (io), D16 PH6/AN6_B (io), E1 PG6/CNTX_B (io), E2 PG11/CNRX_D (io), E3 PG10/CNTX_D (io), E4 PI3/PCS7_A (io), E13 PE4/AN4_A/MDO1' (io), E14 PE5/AN5_A/~{MSEO'} (io), E15 PH5/AN5_B (io), E16 PH4/AN4_B (io), F1 PC0/ADDR0 (io), F2 PG7/CNRX_B (io), F3 PC1/ADDR1 (io), F13 PE2/AN2_A/~{EVTI'} (io), F14 PE3/AN3_A/MDO0' (io), F15 PH3/AN3_B (io), F16 PH2/AN2_B (io), G1 PB0/SDA (io), G2 PC2/ADDR2 (io), G3 PC3/ADDR3 (io), G4 PI4/PCS3_B (io), G13 PH0/AN0_B (io), G14 PH1/AN1_B (io), G15 PE1/AN1_A/~{EVTO'} (io), G16 PE0/AN0_A/MCKO' (io), H1 PB3/SOUT_A (io), H2 PB2/SIN_A (io), H3 PB1/SCL (io), H13 PA8/DATA8 (io), H14 PA9/DATA9 (io), H15 PA7/DATA7 (io), H16 PA10/DATA10 (io), J1 PB5/PCS0_A/~{SS_A} (io), J2 PB6/PCS1_A (io), J3 PB4/SCK_A (io), J4 PI5/PCS4_B (io), J13 PD5/ADDR16 (io), J14 PA12/DATA12 (io), J15 PA11/DATA11 (io), J16 PC15/ADDR15 (io), K1 PB7/PCS2_A (io), K2 PB8/PCS5_A/~{PCSS_A} (io), K3 PF15/eMIOS15/Debug Status (io), K4 PI6/PCS6_B (io), K13 PC13/ADDR13 (io), K14 PC12/ADDR12 (io), K15 PC14/ADDR14 (io), L1 PF14/eMIOS14/Debug Status (io), L2 PF13/eMIOS13/Debug Status (io), L3 PC4/ADDR4 (io), L4 PI7/PCS7_B (io), L13 PD13/~{CS1} (io), L14 PD14/~{CS0} (io), L15 PD15/R/~{W} (io), L16 PD4/~{IRQ} (io), M1 PF12/eMIOS12/Debug Status (io), M2 PC5/ADDR5 (io), M3 PC6/ADDR6 (io), M15 PD3/~{XIRQ} (io), M16 PD2/CLKOUT/~{XCLKS} (io), N1 PF11/eMIOS11/Debug Status (io), N2 PF10/eMIOS10/Debug Status (io), N3 PC7/ADDR7 (io), N4 PI8 (io), N11 PI12 (io), N12 PI13 (io), N13 PI14 (io), N14 PB11/PCS2_B (io), N15 PB14/SOUT_B (io), N16 PB15/SIN_B (io), P1 PF9/eMIOS9/Debug Status (io), P2 PF8/eMIOS8/Debug Status (io), P3 PI9 (io), P4 PF5/eMIOS5/Debug Status (io), P5 PC8/ADDR8 (io), P6 PC10/ADDR10 (io), P11 PA15/DATA15/~{AA} (io), P12 PD11/~{OE} (io), P13 PD12/~{CS2} (io), P14 PI15 (io), P15 PB12/PCS1_B (io), P16 PB13/SCK_B (io), R1 PF7/eMIOS7/Debug Status (io), R2 PI10 (io), R3 PF6/eMIOS6/Debug Status (io), R4 PF3/eMIOS3/Debug Status (io), R5 PF1/eMIOS1/Debug Status/NEXPR (io), R6 PC9/ADDR9 (io), R7 PG12/RXD_D (io), R8 PG13/TXD_D (io), R12 PA13/DATA13 (io), R13 PD1/~{BS1}/MODA (io), R14 PB10/PCS5_B/~{PCSS_B} (io), R15 PI11 (io), T3 PF4/eMIOS4/Debug Status (io), T4 PF2/eMIOS2/Debug Status (io), T5 PF0/eMIOS0/Debug Status/NEXPS (io), T6 PC11/ADDR11 (io), T12 PA14/DATA14/~{PS} (io), T13 PD0/~{BS0}/MODB (io), T14 PB9/PCS0_B/~{SS_B} (io)
part B pins: A14 VRL (power), A15 VRH (power), M14 ~{TA}/~{AS} (io), R11 TEST (in), T7 ~{RESET} (in), T9 XFC (in), T10 EXTAL (in), T11 XTAL (out)
part C pins: A7 TCK (in), A8 TDI (in), B7 TMS (in), B8 TDO (out)
part D pins: A1 VSSX (power), A2 VSSX (power), A16 VDDA (power), B1 VSSX (power), B2 VSSX (power), B15 VDDA (power), C8 VDD2.5 (power), C9 VDDX (power), C13 VDDA (power), D6 VSS2.5 (power), D7 VSS2.5 (power), D11 VSSA (power), D12 VSSA (power), F4 VSSX (power), G7 VSSX (power), G8 VSSX (power), G9 VSSX (power), G10 VSSX (power), H4 VDDX (power), H7 VSSX (power), H8 VSSX (power), H9 VSSX (power), H10 VSSX (power), J7 VSSX (power), J8 VSSX (power), J9 VSSX (power), J10 VSSX (power), K7 VSSX (power), K8 VSSX (power), K9 VSSX (power), K10 VSSX (power), K16 VDDX (power), M4 VSSX (power), M13 VSSX (power), N5 VSSR (power), N6 VSSR (power), N7 VSS2.5 (power), N8 VSS2.5 (power), N9 VSSPLL (power), N10 VSSPLL (power), P7 VDDX (power), P8 VDD2.5 (power), P9 VDDR (power), P10 VDDX (power), R9 VSSX (power), R10 VSSX (power), R16 VSSX (power), T1 VSSX (power), T2 VSSX (power), T8 VDDPLL (power), T15 VSSX (power), T16 VSSX (power)

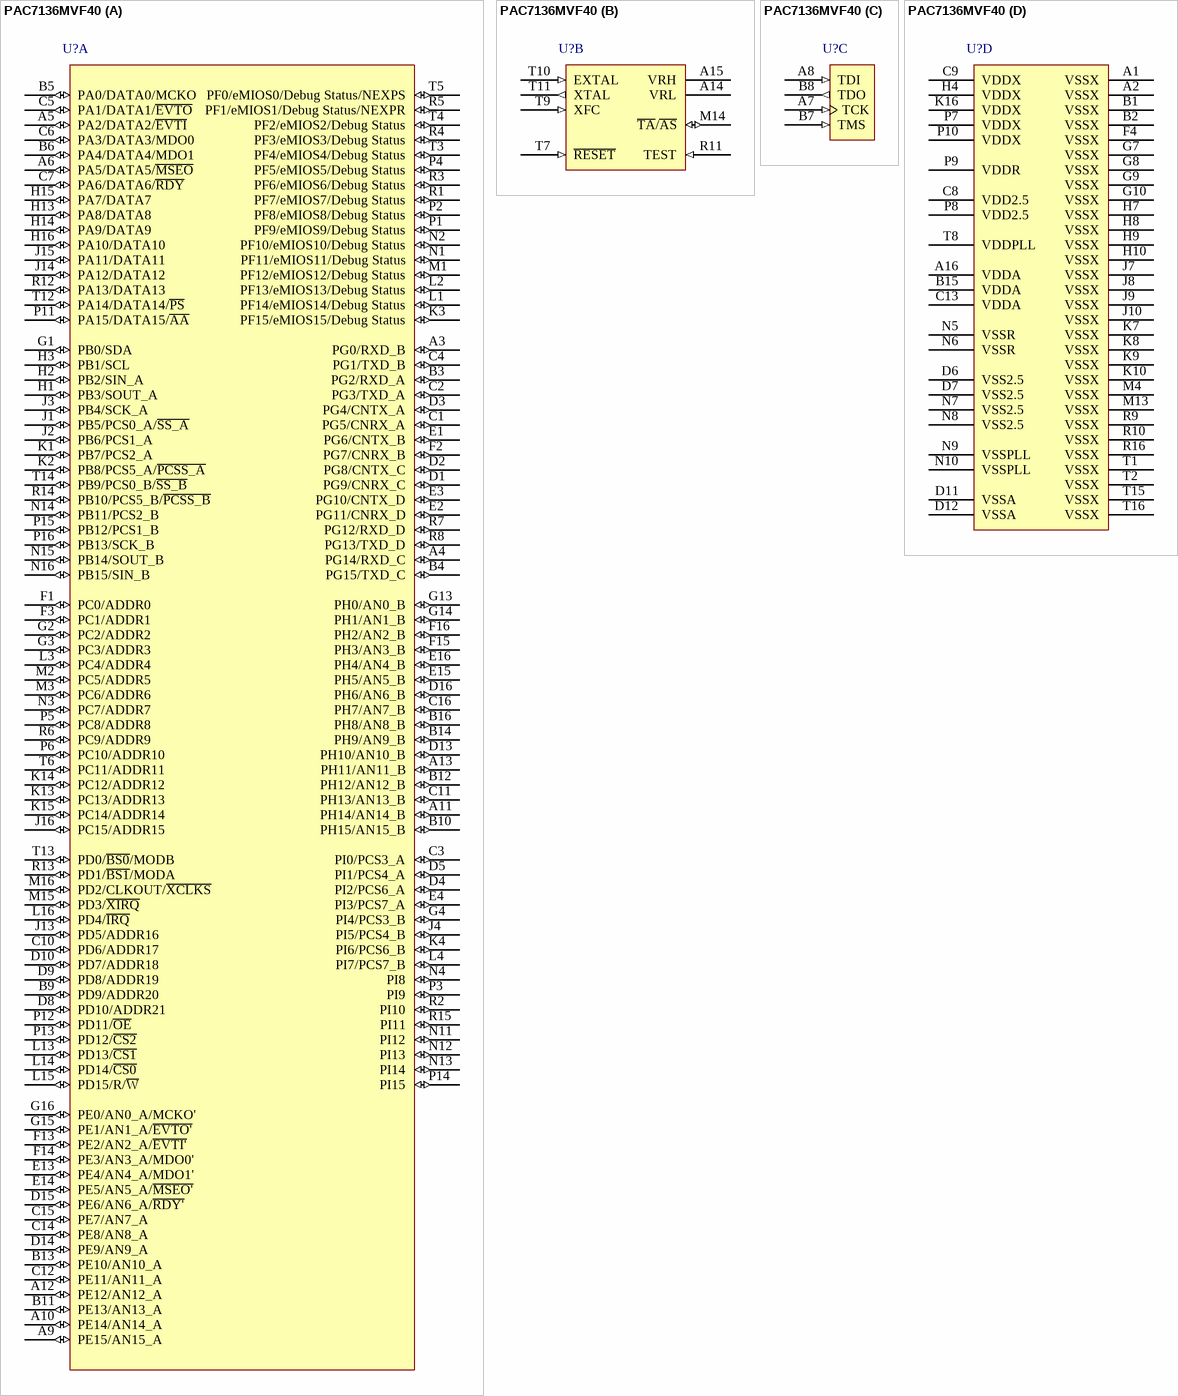
[diagram p35: symbol PAC7136MVF40]

## PAC7136MVF40
designator U?
32-Bit ARM7TDMI-S RISC Core, 1MB Program Flash EEPROM, 48KB RAM, 208-Ball MAP BGA; FunctionAvailability: AS & PD2 functions and Debug Status port not available on mask set L49P devices.; Published: 16-Oct-2006; DatasheetVersion: rev1.2, Feb-2006; PackageVersion: revD, Aug-2005; PackageReference: 1159A-01; Publisher: Altium Limited; PackageDescription: 208-Ball Molded Array Process Ball Grid Array 1 mm Pitch (1159A-01); Code_JEDEC: MO-151-AAF-1; ComponentLink1Description: Manufacturer Link; ComponentLink1URL: http://www.freescale.com/webapp/sps/site/taxonomy.jsp?nodeId=0162468rH311432451; ComponentLink2Description: Datasheet; ComponentLink2URL: http://www.freescale.com/files/32bit/doc/data_sheet/MAC7100EC.pdf; ComponentLink3Description: Packaging Specification; ComponentLink3URL: http://www.freescale.com/files/shared/doc/package_info/98ARS23882W.pdf
footprint 1159A-01 (BGA, 208-Leads, Body 17x17mm, Pitch 1mm)
part A pins: A3 PG0/RXD_B (io), A4 PG14/RXD_C (io), A5 PA2/DATA2/~{EVTI} (io), A6 PA5/DATA5/~{MSEO} (io), A9 PE15/AN15_A (io), A10 PE14/AN14_A (io), A11 PH14/AN14_B (io), A12 PE12/AN12_A (io), A13 PH11/AN11_B (io), B3 PG2/RXD_A (io), B4 PG15/TXD_C (io), B5 PA0/DATA0/MCKO (io), B6 PA4/DATA4/MDO1 (io), B9 PD9/ADDR20 (io), B10 PH15/AN15_B (io), B11 PE13/AN13_A (io), B12 PH12/AN12_B (io), B13 PE10/AN10_A (io), B14 PH9/AN9_B (io), B16 PH8/AN8_B (io), C1 PG5/CNRX_A (io), C2 PG3/TXD_A (io), C3 PI0/PCS3_A (io), C4 PG1/TXD_B (io), C5 PA1/DATA1/~{EVTO} (io), C6 PA3/DATA3/MDO0 (io), C7 PA6/DATA6/~{RDY} (io), C10 PD6/ADDR17 (io), C11 PH13/AN13_B (io), C12 PE11/AN11_A (io), C14 PE8/AN8_A (io), C15 PE7/AN7_A (io), C16 PH7/AN7_B (io), D1 PG9/CNRX_C (io), D2 PG8/CNTX_C (io), D3 PG4/CNTX_A (io), D4 PI2/PCS6_A (io), D5 PI1/PCS4_A (io), D8 PD10/ADDR21 (io), D9 PD8/ADDR19 (io), D10 PD7/ADDR18 (io), D13 PH10/AN10_B (io), D14 PE9/AN9_A (io), D15 PE6/AN6_A/~{RDY'} (io), D16 PH6/AN6_B (io), E1 PG6/CNTX_B (io), E2 PG11/CNRX_D (io), E3 PG10/CNTX_D (io), E4 PI3/PCS7_A (io), E13 PE4/AN4_A/MDO1' (io), E14 PE5/AN5_A/~{MSEO'} (io), E15 PH5/AN5_B (io), E16 PH4/AN4_B (io), F1 PC0/ADDR0 (io), F2 PG7/CNRX_B (io), F3 PC1/ADDR1 (io), F13 PE2/AN2_A/~{EVTI'} (io), F14 PE3/AN3_A/MDO0' (io), F15 PH3/AN3_B (io), F16 PH2/AN2_B (io), G1 PB0/SDA (io), G2 PC2/ADDR2 (io), G3 PC3/ADDR3 (io), G4 PI4/PCS3_B (io), G13 PH0/AN0_B (io), G14 PH1/AN1_B (io), G15 PE1/AN1_A/~{EVTO'} (io), G16 PE0/AN0_A/MCKO' (io), H1 PB3/SOUT_A (io), H2 PB2/SIN_A (io), H3 PB1/SCL (io), H13 PA8/DATA8 (io), H14 PA9/DATA9 (io), H15 PA7/DATA7 (io), H16 PA10/DATA10 (io), J1 PB5/PCS0_A/~{SS_A} (io), J2 PB6/PCS1_A (io), J3 PB4/SCK_A (io), J4 PI5/PCS4_B (io), J13 PD5/ADDR16 (io), J14 PA12/DATA12 (io), J15 PA11/DATA11 (io), J16 PC15/ADDR15 (io), K1 PB7/PCS2_A (io), K2 PB8/PCS5_A/~{PCSS_A} (io), K3 PF15/eMIOS15/Debug Status (io), K4 PI6/PCS6_B (io), K13 PC13/ADDR13 (io), K14 PC12/ADDR12 (io), K15 PC14/ADDR14 (io), L1 PF14/eMIOS14/Debug Status (io), L2 PF13/eMIOS13/Debug Status (io), L3 PC4/ADDR4 (io), L4 PI7/PCS7_B (io), L13 PD13/~{CS1} (io), L14 PD14/~{CS0} (io), L15 PD15/R/~{W} (io), L16 PD4/~{IRQ} (io), M1 PF12/eMIOS12/Debug Status (io), M2 PC5/ADDR5 (io), M3 PC6/ADDR6 (io), M15 PD3/~{XIRQ} (io), M16 PD2/CLKOUT/~{XCLKS} (io), N1 PF11/eMIOS11/Debug Status (io), N2 PF10/eMIOS10/Debug Status (io), N3 PC7/ADDR7 (io), N4 PI8 (io), N11 PI12 (io), N12 PI13 (io), N13 PI14 (io), N14 PB11/PCS2_B (io), N15 PB14/SOUT_B (io), N16 PB15/SIN_B (io), P1 PF9/eMIOS9/Debug Status (io), P2 PF8/eMIOS8/Debug Status (io), P3 PI9 (io), P4 PF5/eMIOS5/Debug Status (io), P5 PC8/ADDR8 (io), P6 PC10/ADDR10 (io), P11 PA15/DATA15/~{AA} (io), P12 PD11/~{OE} (io), P13 PD12/~{CS2} (io), P14 PI15 (io), P15 PB12/PCS1_B (io), P16 PB13/SCK_B (io), R1 PF7/eMIOS7/Debug Status (io), R2 PI10 (io), R3 PF6/eMIOS6/Debug Status (io), R4 PF3/eMIOS3/Debug Status (io), R5 PF1/eMIOS1/Debug Status/NEXPR (io), R6 PC9/ADDR9 (io), R7 PG12/RXD_D (io), R8 PG13/TXD_D (io), R12 PA13/DATA13 (io), R13 PD1/~{BS1}/MODA (io), R14 PB10/PCS5_B/~{PCSS_B} (io), R15 PI11 (io), T3 PF4/eMIOS4/Debug Status (io), T4 PF2/eMIOS2/Debug Status (io), T5 PF0/eMIOS0/Debug Status/NEXPS (io), T6 PC11/ADDR11 (io), T12 PA14/DATA14/~{PS} (io), T13 PD0/~{BS0}/MODB (io), T14 PB9/PCS0_B/~{SS_B} (io)
part B pins: A14 VRL (power), A15 VRH (power), M14 ~{TA}/~{AS} (io), R11 TEST (in), T7 ~{RESET} (in), T9 XFC (in), T10 EXTAL (in), T11 XTAL (out)
part C pins: A7 TCK (in), A8 TDI (in), B7 TMS (in), B8 TDO (out)
part D pins: A1 VSSX (power), A2 VSSX (power), A16 VDDA (power), B1 VSSX (power), B2 VSSX (power), B15 VDDA (power), C8 VDD2.5 (power), C9 VDDX (power), C13 VDDA (power), D6 VSS2.5 (power), D7 VSS2.5 (power), D11 VSSA (power), D12 VSSA (power), F4 VSSX (power), G7 VSSX (power), G8 VSSX (power), G9 VSSX (power), G10 VSSX (power), H4 VDDX (power), H7 VSSX (power), H8 VSSX (power), H9 VSSX (power), H10 VSSX (power), J7 VSSX (power), J8 VSSX (power), J9 VSSX (power), J10 VSSX (power), K7 VSSX (power), K8 VSSX (power), K9 VSSX (power), K10 VSSX (power), K16 VDDX (power), M4 VSSX (power), M13 VSSX (power), N5 VSSR (power), N6 VSSR (power), N7 VSS2.5 (power), N8 VSS2.5 (power), N9 VSSPLL (power), N10 VSSPLL (power), P7 VDDX (power), P8 VDD2.5 (power), P9 VDDR (power), P10 VDDX (power), R9 VSSX (power), R10 VSSX (power), R16 VSSX (power), T1 VSSX (power), T2 VSSX (power), T8 VDDPLL (power), T15 VSSX (power), T16 VSSX (power)

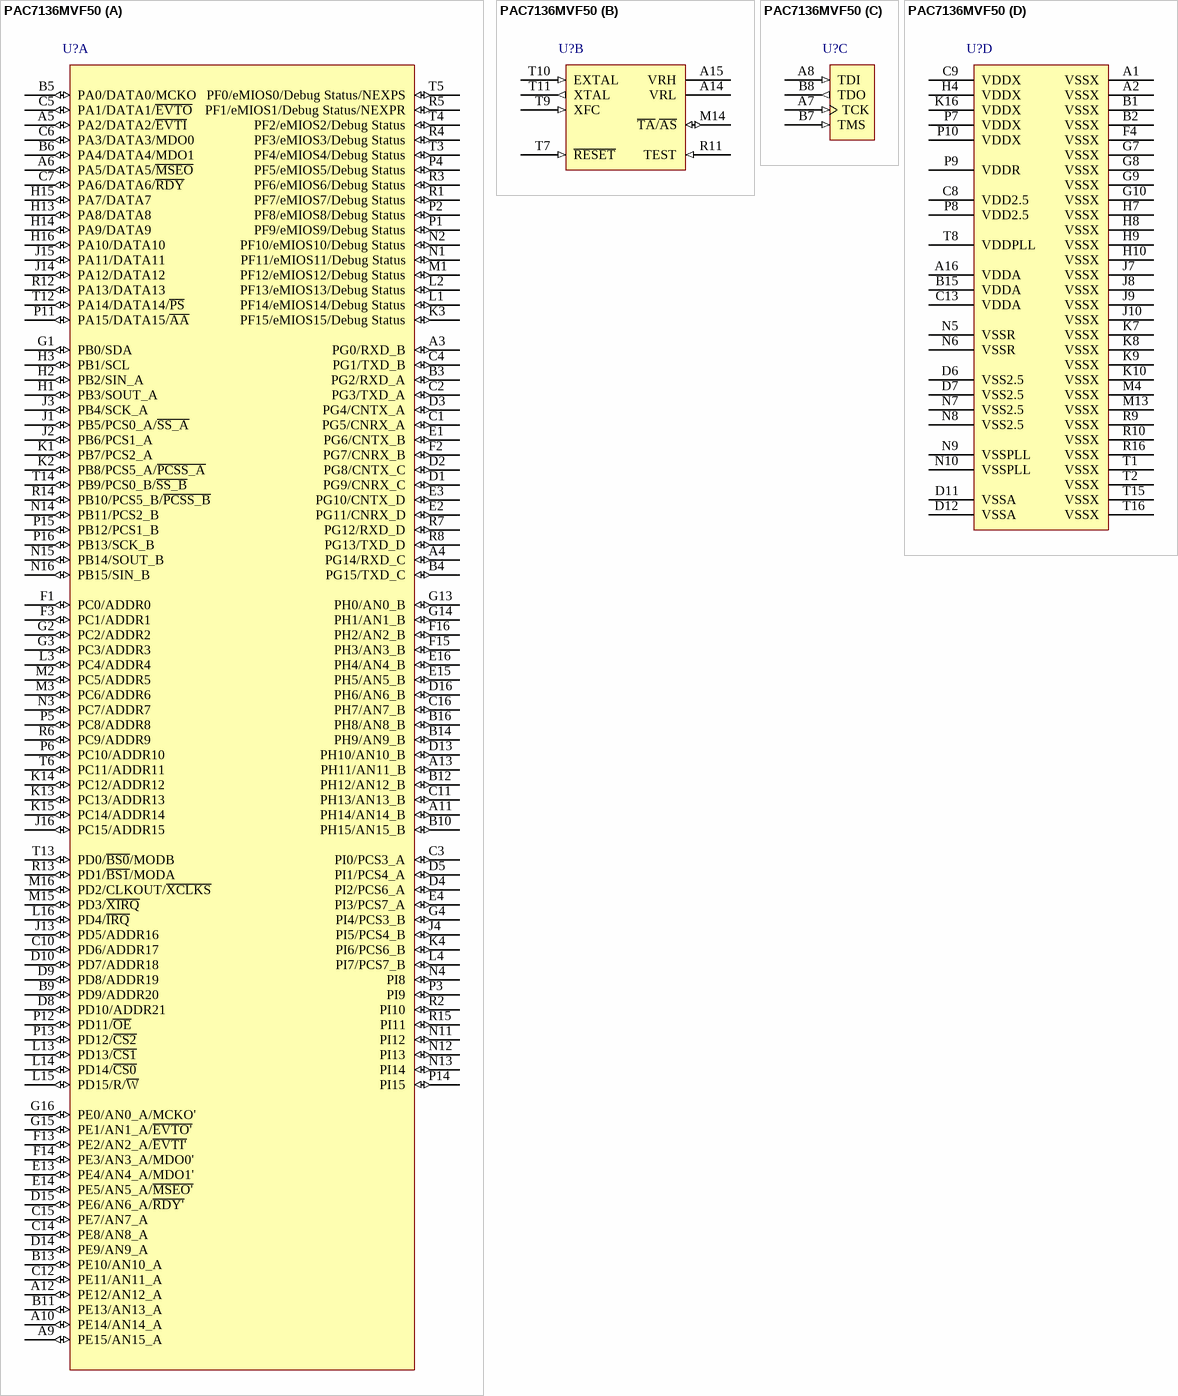
[diagram p36: symbol PAC7136MVF50]

## PAC7136MVF50
designator U?
32-Bit ARM7TDMI-S RISC Core, 1MB Program Flash EEPROM, 48KB RAM, 208-Ball MAP BGA; FunctionAvailability: AS & PD2 functions and Debug Status port not available on mask set L49P devices.; Published: 16-Oct-2006; DatasheetVersion: rev1.2, Feb-2006; PackageVersion: revD, Aug-2005; PackageReference: 1159A-01; Publisher: Altium Limited; PackageDescription: 208-Ball Molded Array Process Ball Grid Array 1 mm Pitch (1159A-01); Code_JEDEC: MO-151-AAF-1; ComponentLink1Description: Manufacturer Link; ComponentLink1URL: http://www.freescale.com/webapp/sps/site/taxonomy.jsp?nodeId=0162468rH311432451; ComponentLink2Description: Datasheet; ComponentLink2URL: http://www.freescale.com/files/32bit/doc/data_sheet/MAC7100EC.pdf; ComponentLink3Description: Packaging Specification; ComponentLink3URL: http://www.freescale.com/files/shared/doc/package_info/98ARS23882W.pdf
footprint 1159A-01 (BGA, 208-Leads, Body 17x17mm, Pitch 1mm)
part A pins: A3 PG0/RXD_B (io), A4 PG14/RXD_C (io), A5 PA2/DATA2/~{EVTI} (io), A6 PA5/DATA5/~{MSEO} (io), A9 PE15/AN15_A (io), A10 PE14/AN14_A (io), A11 PH14/AN14_B (io), A12 PE12/AN12_A (io), A13 PH11/AN11_B (io), B3 PG2/RXD_A (io), B4 PG15/TXD_C (io), B5 PA0/DATA0/MCKO (io), B6 PA4/DATA4/MDO1 (io), B9 PD9/ADDR20 (io), B10 PH15/AN15_B (io), B11 PE13/AN13_A (io), B12 PH12/AN12_B (io), B13 PE10/AN10_A (io), B14 PH9/AN9_B (io), B16 PH8/AN8_B (io), C1 PG5/CNRX_A (io), C2 PG3/TXD_A (io), C3 PI0/PCS3_A (io), C4 PG1/TXD_B (io), C5 PA1/DATA1/~{EVTO} (io), C6 PA3/DATA3/MDO0 (io), C7 PA6/DATA6/~{RDY} (io), C10 PD6/ADDR17 (io), C11 PH13/AN13_B (io), C12 PE11/AN11_A (io), C14 PE8/AN8_A (io), C15 PE7/AN7_A (io), C16 PH7/AN7_B (io), D1 PG9/CNRX_C (io), D2 PG8/CNTX_C (io), D3 PG4/CNTX_A (io), D4 PI2/PCS6_A (io), D5 PI1/PCS4_A (io), D8 PD10/ADDR21 (io), D9 PD8/ADDR19 (io), D10 PD7/ADDR18 (io), D13 PH10/AN10_B (io), D14 PE9/AN9_A (io), D15 PE6/AN6_A/~{RDY'} (io), D16 PH6/AN6_B (io), E1 PG6/CNTX_B (io), E2 PG11/CNRX_D (io), E3 PG10/CNTX_D (io), E4 PI3/PCS7_A (io), E13 PE4/AN4_A/MDO1' (io), E14 PE5/AN5_A/~{MSEO'} (io), E15 PH5/AN5_B (io), E16 PH4/AN4_B (io), F1 PC0/ADDR0 (io), F2 PG7/CNRX_B (io), F3 PC1/ADDR1 (io), F13 PE2/AN2_A/~{EVTI'} (io), F14 PE3/AN3_A/MDO0' (io), F15 PH3/AN3_B (io), F16 PH2/AN2_B (io), G1 PB0/SDA (io), G2 PC2/ADDR2 (io), G3 PC3/ADDR3 (io), G4 PI4/PCS3_B (io), G13 PH0/AN0_B (io), G14 PH1/AN1_B (io), G15 PE1/AN1_A/~{EVTO'} (io), G16 PE0/AN0_A/MCKO' (io), H1 PB3/SOUT_A (io), H2 PB2/SIN_A (io), H3 PB1/SCL (io), H13 PA8/DATA8 (io), H14 PA9/DATA9 (io), H15 PA7/DATA7 (io), H16 PA10/DATA10 (io), J1 PB5/PCS0_A/~{SS_A} (io), J2 PB6/PCS1_A (io), J3 PB4/SCK_A (io), J4 PI5/PCS4_B (io), J13 PD5/ADDR16 (io), J14 PA12/DATA12 (io), J15 PA11/DATA11 (io), J16 PC15/ADDR15 (io), K1 PB7/PCS2_A (io), K2 PB8/PCS5_A/~{PCSS_A} (io), K3 PF15/eMIOS15/Debug Status (io), K4 PI6/PCS6_B (io), K13 PC13/ADDR13 (io), K14 PC12/ADDR12 (io), K15 PC14/ADDR14 (io), L1 PF14/eMIOS14/Debug Status (io), L2 PF13/eMIOS13/Debug Status (io), L3 PC4/ADDR4 (io), L4 PI7/PCS7_B (io), L13 PD13/~{CS1} (io), L14 PD14/~{CS0} (io), L15 PD15/R/~{W} (io), L16 PD4/~{IRQ} (io), M1 PF12/eMIOS12/Debug Status (io), M2 PC5/ADDR5 (io), M3 PC6/ADDR6 (io), M15 PD3/~{XIRQ} (io), M16 PD2/CLKOUT/~{XCLKS} (io), N1 PF11/eMIOS11/Debug Status (io), N2 PF10/eMIOS10/Debug Status (io), N3 PC7/ADDR7 (io), N4 PI8 (io), N11 PI12 (io), N12 PI13 (io), N13 PI14 (io), N14 PB11/PCS2_B (io), N15 PB14/SOUT_B (io), N16 PB15/SIN_B (io), P1 PF9/eMIOS9/Debug Status (io), P2 PF8/eMIOS8/Debug Status (io), P3 PI9 (io), P4 PF5/eMIOS5/Debug Status (io), P5 PC8/ADDR8 (io), P6 PC10/ADDR10 (io), P11 PA15/DATA15/~{AA} (io), P12 PD11/~{OE} (io), P13 PD12/~{CS2} (io), P14 PI15 (io), P15 PB12/PCS1_B (io), P16 PB13/SCK_B (io), R1 PF7/eMIOS7/Debug Status (io), R2 PI10 (io), R3 PF6/eMIOS6/Debug Status (io), R4 PF3/eMIOS3/Debug Status (io), R5 PF1/eMIOS1/Debug Status/NEXPR (io), R6 PC9/ADDR9 (io), R7 PG12/RXD_D (io), R8 PG13/TXD_D (io), R12 PA13/DATA13 (io), R13 PD1/~{BS1}/MODA (io), R14 PB10/PCS5_B/~{PCSS_B} (io), R15 PI11 (io), T3 PF4/eMIOS4/Debug Status (io), T4 PF2/eMIOS2/Debug Status (io), T5 PF0/eMIOS0/Debug Status/NEXPS (io), T6 PC11/ADDR11 (io), T12 PA14/DATA14/~{PS} (io), T13 PD0/~{BS0}/MODB (io), T14 PB9/PCS0_B/~{SS_B} (io)
part B pins: A14 VRL (power), A15 VRH (power), M14 ~{TA}/~{AS} (io), R11 TEST (in), T7 ~{RESET} (in), T9 XFC (in), T10 EXTAL (in), T11 XTAL (out)
part C pins: A7 TCK (in), A8 TDI (in), B7 TMS (in), B8 TDO (out)
part D pins: A1 VSSX (power), A2 VSSX (power), A16 VDDA (power), B1 VSSX (power), B2 VSSX (power), B15 VDDA (power), C8 VDD2.5 (power), C9 VDDX (power), C13 VDDA (power), D6 VSS2.5 (power), D7 VSS2.5 (power), D11 VSSA (power), D12 VSSA (power), F4 VSSX (power), G7 VSSX (power), G8 VSSX (power), G9 VSSX (power), G10 VSSX (power), H4 VDDX (power), H7 VSSX (power), H8 VSSX (power), H9 VSSX (power), H10 VSSX (power), J7 VSSX (power), J8 VSSX (power), J9 VSSX (power), J10 VSSX (power), K7 VSSX (power), K8 VSSX (power), K9 VSSX (power), K10 VSSX (power), K16 VDDX (power), M4 VSSX (power), M13 VSSX (power), N5 VSSR (power), N6 VSSR (power), N7 VSS2.5 (power), N8 VSS2.5 (power), N9 VSSPLL (power), N10 VSSPLL (power), P7 VDDX (power), P8 VDD2.5 (power), P9 VDDR (power), P10 VDDX (power), R9 VSSX (power), R10 VSSX (power), R16 VSSX (power), T1 VSSX (power), T2 VSSX (power), T8 VDDPLL (power), T15 VSSX (power), T16 VSSX (power)

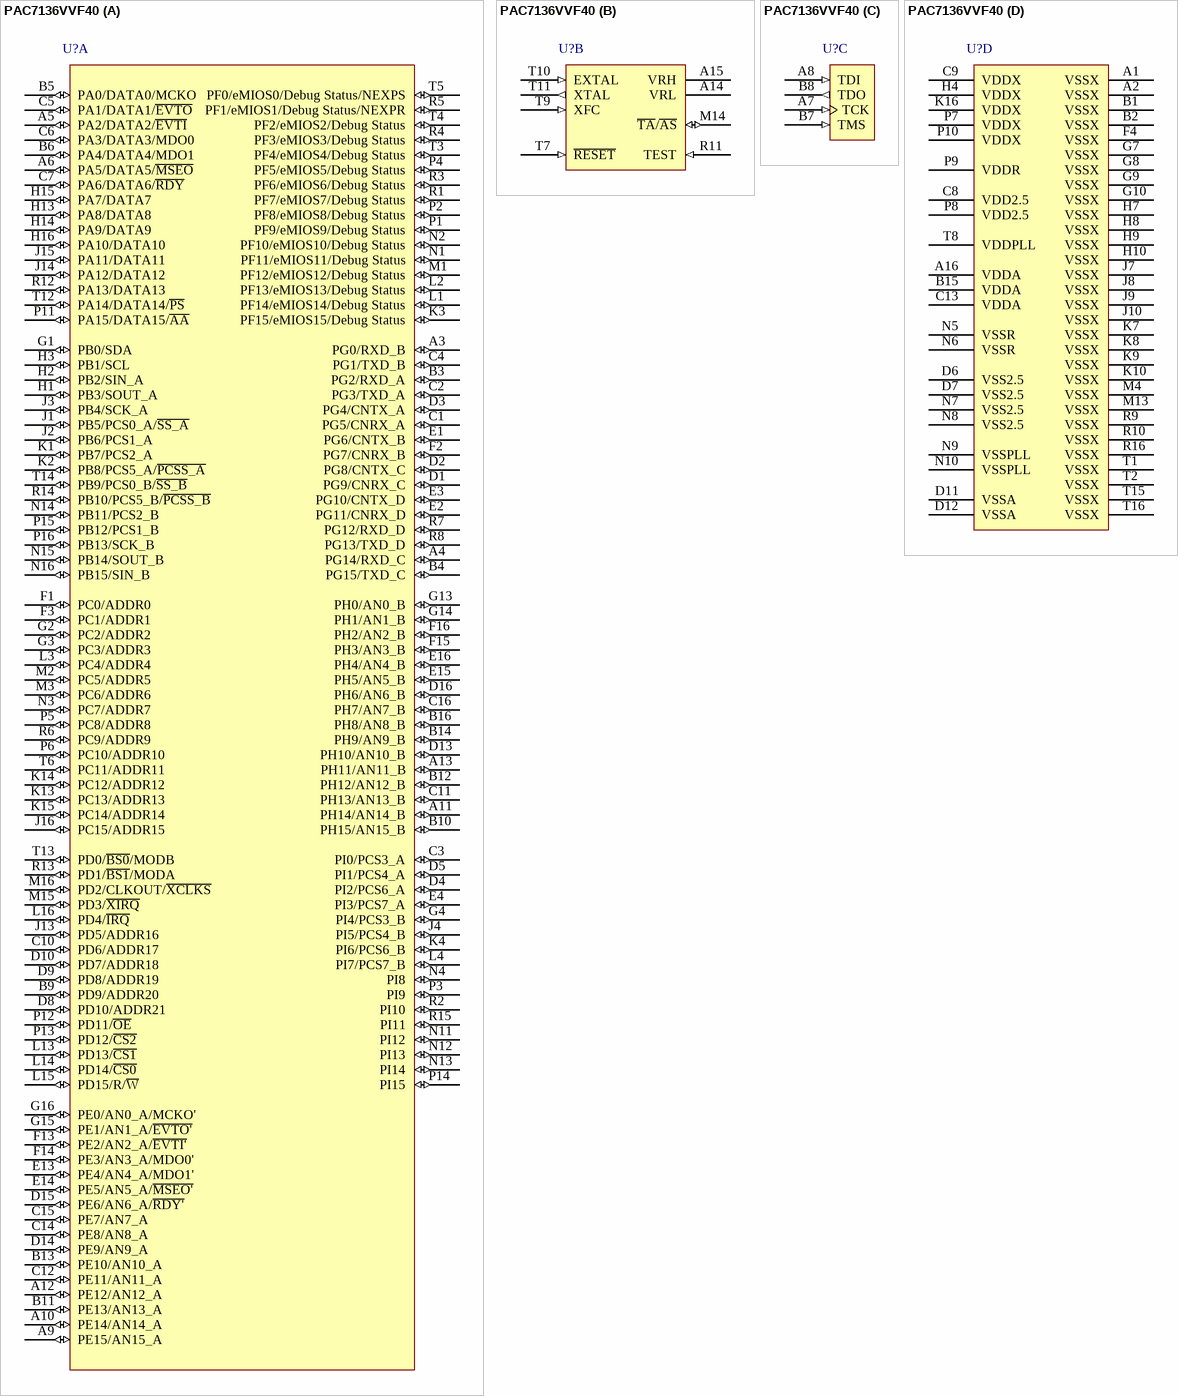
[diagram p37: symbol PAC7136VVF40]

## PAC7136VVF40
designator U?
32-Bit ARM7TDMI-S RISC Core, 1MB Program Flash EEPROM, 48KB RAM, 208-Ball MAP BGA; FunctionAvailability: AS & PD2 functions and Debug Status port not available on mask set L49P devices.; Published: 16-Oct-2006; DatasheetVersion: rev1.2, Feb-2006; PackageVersion: revD, Aug-2005; PackageReference: 1159A-01; Publisher: Altium Limited; PackageDescription: 208-Ball Molded Array Process Ball Grid Array 1 mm Pitch (1159A-01); Code_JEDEC: MO-151-AAF-1; ComponentLink1Description: Manufacturer Link; ComponentLink1URL: http://www.freescale.com/webapp/sps/site/taxonomy.jsp?nodeId=0162468rH311432451; ComponentLink2Description: Datasheet; ComponentLink2URL: http://www.freescale.com/files/32bit/doc/data_sheet/MAC7100EC.pdf; ComponentLink3Description: Packaging Specification; ComponentLink3URL: http://www.freescale.com/files/shared/doc/package_info/98ARS23882W.pdf
footprint 1159A-01 (BGA, 208-Leads, Body 17x17mm, Pitch 1mm)
part A pins: A3 PG0/RXD_B (io), A4 PG14/RXD_C (io), A5 PA2/DATA2/~{EVTI} (io), A6 PA5/DATA5/~{MSEO} (io), A9 PE15/AN15_A (io), A10 PE14/AN14_A (io), A11 PH14/AN14_B (io), A12 PE12/AN12_A (io), A13 PH11/AN11_B (io), B3 PG2/RXD_A (io), B4 PG15/TXD_C (io), B5 PA0/DATA0/MCKO (io), B6 PA4/DATA4/MDO1 (io), B9 PD9/ADDR20 (io), B10 PH15/AN15_B (io), B11 PE13/AN13_A (io), B12 PH12/AN12_B (io), B13 PE10/AN10_A (io), B14 PH9/AN9_B (io), B16 PH8/AN8_B (io), C1 PG5/CNRX_A (io), C2 PG3/TXD_A (io), C3 PI0/PCS3_A (io), C4 PG1/TXD_B (io), C5 PA1/DATA1/~{EVTO} (io), C6 PA3/DATA3/MDO0 (io), C7 PA6/DATA6/~{RDY} (io), C10 PD6/ADDR17 (io), C11 PH13/AN13_B (io), C12 PE11/AN11_A (io), C14 PE8/AN8_A (io), C15 PE7/AN7_A (io), C16 PH7/AN7_B (io), D1 PG9/CNRX_C (io), D2 PG8/CNTX_C (io), D3 PG4/CNTX_A (io), D4 PI2/PCS6_A (io), D5 PI1/PCS4_A (io), D8 PD10/ADDR21 (io), D9 PD8/ADDR19 (io), D10 PD7/ADDR18 (io), D13 PH10/AN10_B (io), D14 PE9/AN9_A (io), D15 PE6/AN6_A/~{RDY'} (io), D16 PH6/AN6_B (io), E1 PG6/CNTX_B (io), E2 PG11/CNRX_D (io), E3 PG10/CNTX_D (io), E4 PI3/PCS7_A (io), E13 PE4/AN4_A/MDO1' (io), E14 PE5/AN5_A/~{MSEO'} (io), E15 PH5/AN5_B (io), E16 PH4/AN4_B (io), F1 PC0/ADDR0 (io), F2 PG7/CNRX_B (io), F3 PC1/ADDR1 (io), F13 PE2/AN2_A/~{EVTI'} (io), F14 PE3/AN3_A/MDO0' (io), F15 PH3/AN3_B (io), F16 PH2/AN2_B (io), G1 PB0/SDA (io), G2 PC2/ADDR2 (io), G3 PC3/ADDR3 (io), G4 PI4/PCS3_B (io), G13 PH0/AN0_B (io), G14 PH1/AN1_B (io), G15 PE1/AN1_A/~{EVTO'} (io), G16 PE0/AN0_A/MCKO' (io), H1 PB3/SOUT_A (io), H2 PB2/SIN_A (io), H3 PB1/SCL (io), H13 PA8/DATA8 (io), H14 PA9/DATA9 (io), H15 PA7/DATA7 (io), H16 PA10/DATA10 (io), J1 PB5/PCS0_A/~{SS_A} (io), J2 PB6/PCS1_A (io), J3 PB4/SCK_A (io), J4 PI5/PCS4_B (io), J13 PD5/ADDR16 (io), J14 PA12/DATA12 (io), J15 PA11/DATA11 (io), J16 PC15/ADDR15 (io), K1 PB7/PCS2_A (io), K2 PB8/PCS5_A/~{PCSS_A} (io), K3 PF15/eMIOS15/Debug Status (io), K4 PI6/PCS6_B (io), K13 PC13/ADDR13 (io), K14 PC12/ADDR12 (io), K15 PC14/ADDR14 (io), L1 PF14/eMIOS14/Debug Status (io), L2 PF13/eMIOS13/Debug Status (io), L3 PC4/ADDR4 (io), L4 PI7/PCS7_B (io), L13 PD13/~{CS1} (io), L14 PD14/~{CS0} (io), L15 PD15/R/~{W} (io), L16 PD4/~{IRQ} (io), M1 PF12/eMIOS12/Debug Status (io), M2 PC5/ADDR5 (io), M3 PC6/ADDR6 (io), M15 PD3/~{XIRQ} (io), M16 PD2/CLKOUT/~{XCLKS} (io), N1 PF11/eMIOS11/Debug Status (io), N2 PF10/eMIOS10/Debug Status (io), N3 PC7/ADDR7 (io), N4 PI8 (io), N11 PI12 (io), N12 PI13 (io), N13 PI14 (io), N14 PB11/PCS2_B (io), N15 PB14/SOUT_B (io), N16 PB15/SIN_B (io), P1 PF9/eMIOS9/Debug Status (io), P2 PF8/eMIOS8/Debug Status (io), P3 PI9 (io), P4 PF5/eMIOS5/Debug Status (io), P5 PC8/ADDR8 (io), P6 PC10/ADDR10 (io), P11 PA15/DATA15/~{AA} (io), P12 PD11/~{OE} (io), P13 PD12/~{CS2} (io), P14 PI15 (io), P15 PB12/PCS1_B (io), P16 PB13/SCK_B (io), R1 PF7/eMIOS7/Debug Status (io), R2 PI10 (io), R3 PF6/eMIOS6/Debug Status (io), R4 PF3/eMIOS3/Debug Status (io), R5 PF1/eMIOS1/Debug Status/NEXPR (io), R6 PC9/ADDR9 (io), R7 PG12/RXD_D (io), R8 PG13/TXD_D (io), R12 PA13/DATA13 (io), R13 PD1/~{BS1}/MODA (io), R14 PB10/PCS5_B/~{PCSS_B} (io), R15 PI11 (io), T3 PF4/eMIOS4/Debug Status (io), T4 PF2/eMIOS2/Debug Status (io), T5 PF0/eMIOS0/Debug Status/NEXPS (io), T6 PC11/ADDR11 (io), T12 PA14/DATA14/~{PS} (io), T13 PD0/~{BS0}/MODB (io), T14 PB9/PCS0_B/~{SS_B} (io)
part B pins: A14 VRL (power), A15 VRH (power), M14 ~{TA}/~{AS} (io), R11 TEST (in), T7 ~{RESET} (in), T9 XFC (in), T10 EXTAL (in), T11 XTAL (out)
part C pins: A7 TCK (in), A8 TDI (in), B7 TMS (in), B8 TDO (out)
part D pins: A1 VSSX (power), A2 VSSX (power), A16 VDDA (power), B1 VSSX (power), B2 VSSX (power), B15 VDDA (power), C8 VDD2.5 (power), C9 VDDX (power), C13 VDDA (power), D6 VSS2.5 (power), D7 VSS2.5 (power), D11 VSSA (power), D12 VSSA (power), F4 VSSX (power), G7 VSSX (power), G8 VSSX (power), G9 VSSX (power), G10 VSSX (power), H4 VDDX (power), H7 VSSX (power), H8 VSSX (power), H9 VSSX (power), H10 VSSX (power), J7 VSSX (power), J8 VSSX (power), J9 VSSX (power), J10 VSSX (power), K7 VSSX (power), K8 VSSX (power), K9 VSSX (power), K10 VSSX (power), K16 VDDX (power), M4 VSSX (power), M13 VSSX (power), N5 VSSR (power), N6 VSSR (power), N7 VSS2.5 (power), N8 VSS2.5 (power), N9 VSSPLL (power), N10 VSSPLL (power), P7 VDDX (power), P8 VDD2.5 (power), P9 VDDR (power), P10 VDDX (power), R9 VSSX (power), R10 VSSX (power), R16 VSSX (power), T1 VSSX (power), T2 VSSX (power), T8 VDDPLL (power), T15 VSSX (power), T16 VSSX (power)

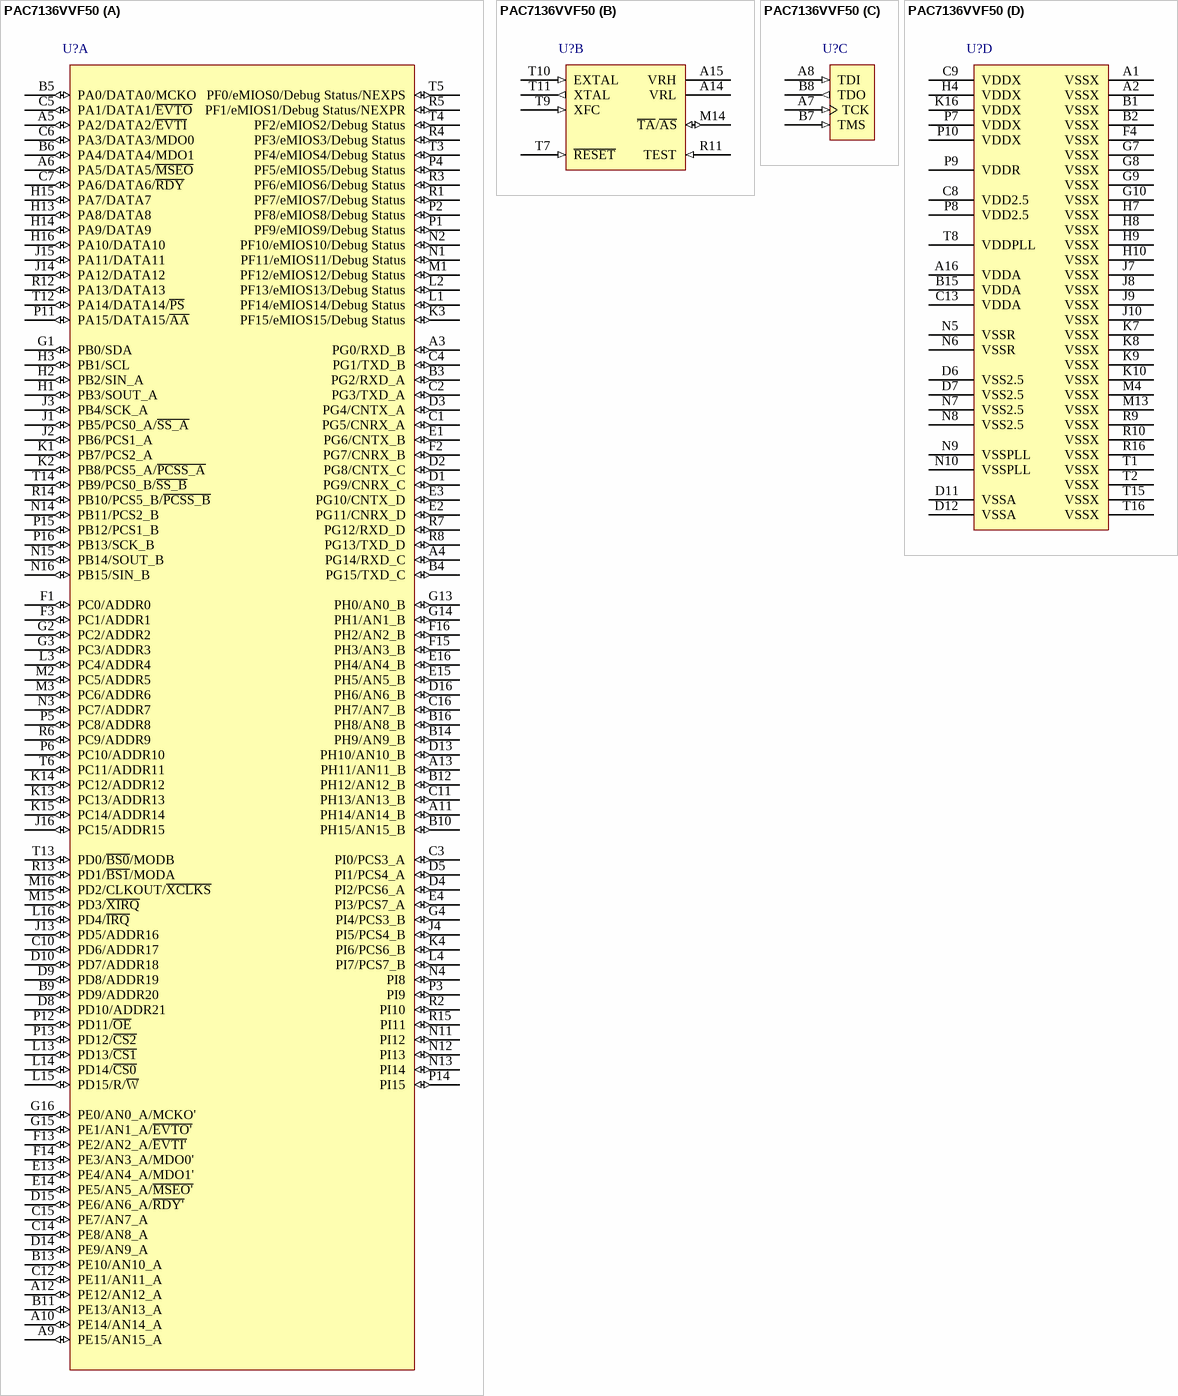
[diagram p38: symbol PAC7136VVF50]